# Altium integrated library ST Microcontroller 32-Bit.IntLib: 27 symbols (part 1 of 5)
Pins are listed as number, name and electrical type; pins without a type are passive.

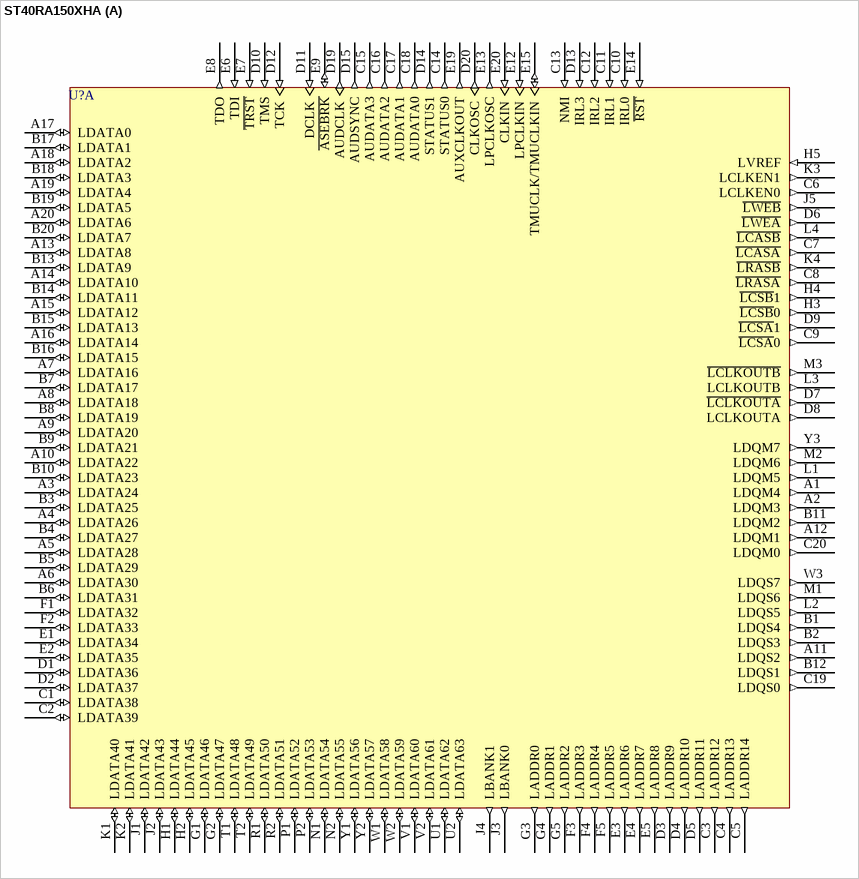
[diagram p0: symbol ST40RA150XHA]

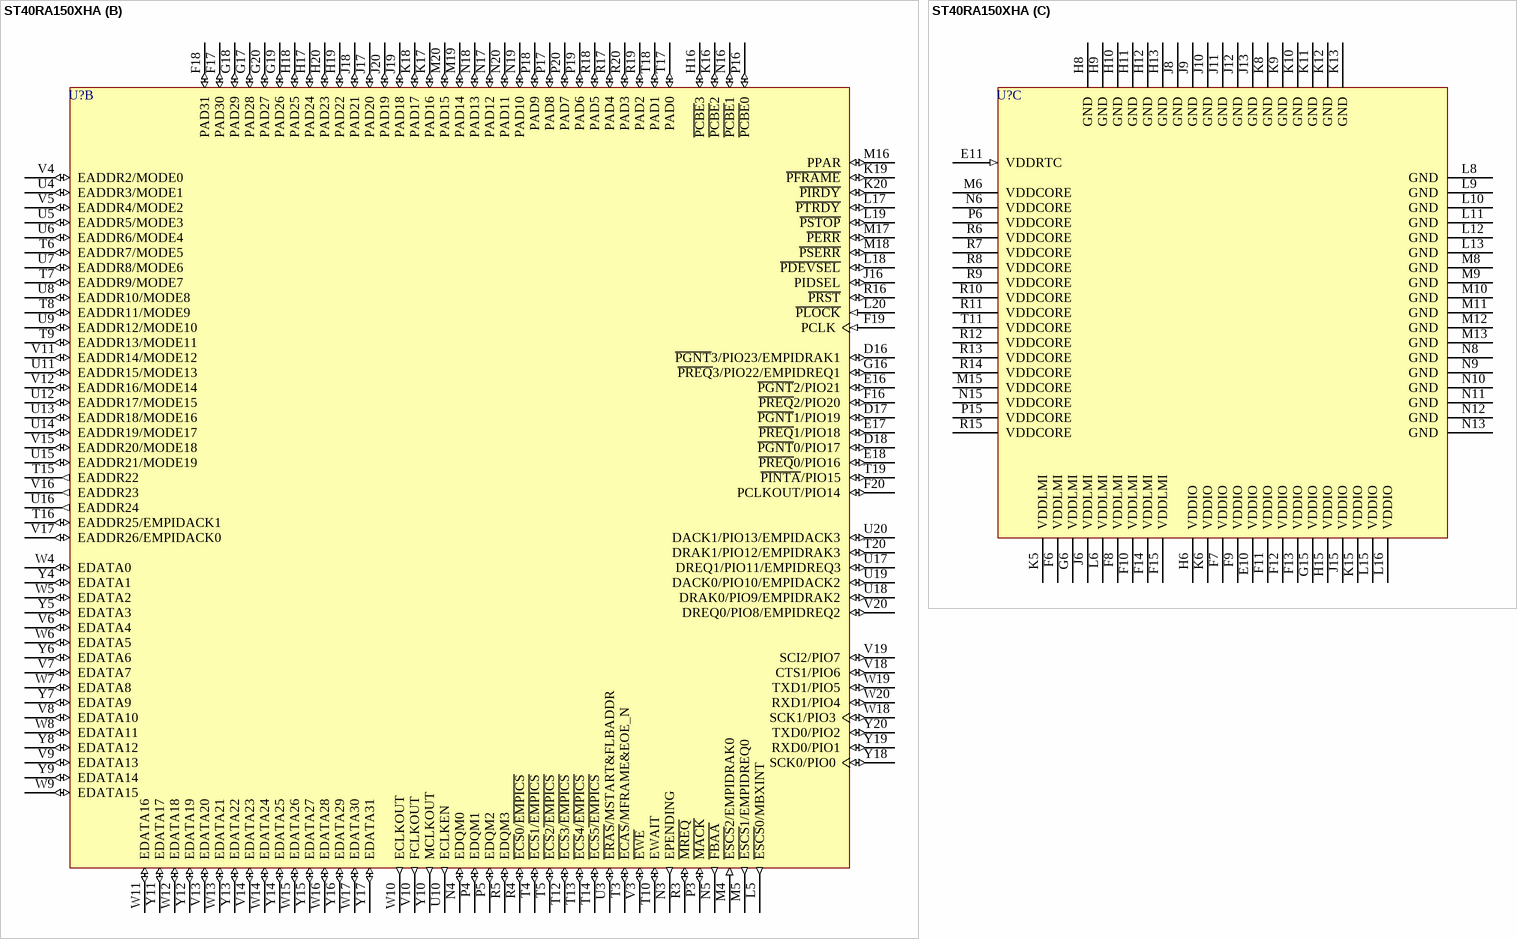
[diagram p1: symbol ST40RA150XHA]

## ST40RA150XHA
designator U?
32-Bit Embedded SuperH Device, 150 MHz CPU Clock, 372-Pin PBGA; Published: 26-May-2004; LatestRevisionDate: 6-Jun-2005; LatestRevisionNote: Stylized 3D Model Added.; DatasheetDocument: Aug-2003; PackageDocument: Aug-2003; PackageReference: PBGA372; Publisher: Altium Limited; ComponentLink1Description: Manufacturer Link; ComponentLink1URL: http://www.st.com/; ComponentLink2Description: Datasheet; ComponentLink2URL: http://www.st.com/stonline/products/literature/ds/8672/st40ra.pdf
footprint PBGA372 (BGA, Plastic; 372 Balls; Body 27 x 27 mm; Pitch 1.27 mm)
3D model ST40RA-PBGA372 (BGA, Plastic; 372 Balls; Body 27 x 27 mm; Pitch 1.27 mm)
part A pins: A1 LDQM4 (out), A2 LDQM3 (out), A3 LDATA24 (io), A4 LDATA26 (io), A5 LDATA28 (io), A6 LDATA30 (io), A7 LDATA16 (io), A8 LDATA18 (io), A9 LDATA20 (io), A10 LDATA22 (io), A11 LDQS2 (out), A12 LDQM1 (out), A13 LDATA8 (io), A14 LDATA10 (io), A15 LDATA12 (io), A16 LDATA14 (io), A17 LDATA0 (io), A18 LDATA2 (io), A19 LDATA4 (io), A20 LDATA6 (io), B1 LDQS4 (out), B2 LDQS3 (out), B3 LDATA25 (io), B4 LDATA27 (io), B5 LDATA29 (io), B6 LDATA31 (io), B7 LDATA17 (io), B8 LDATA19 (io), B9 LDATA21 (io), B10 LDATA23 (io), B11 LDQM2 (out), B12 LDQS1 (out), B13 LDATA9 (io), B14 LDATA11 (io), B15 LDATA13 (io), B16 LDATA15 (io), B17 LDATA1 (io), B18 LDATA3 (io), B19 LDATA5 (io), B20 LDATA7 (io), C1 LDATA38 (io), C2 LDATA39 (io), C3 LADDR12 (out), C4 LADDR13 (out), C5 LADDR14 (out), C6 LCLKEN0 (out), C7 ~{LCASA} (out), C8 ~{LRASA} (out), C9 ~{LCSA}0 (out), C10 IRL0 (in), C11 IRL1 (in), C12 IRL2 (in), C13 NMI (in), C14 STATUS0 (out), C15 AUDATA3 (out), C16 AUDATA2 (out), C17 AUDATA1 (out), C18 AUDATA0 (out), C19 LDQS0 (out), C20 LDQM0 (out), D1 LDATA36 (io), D2 LDATA37 (io), D3 LADDR9 (out), D4 LADDR10 (out), D5 LADDR11 (out), D6 ~{LWEA} (out), D7 ~{LCLKOUTA} (out), D8 LCLKOUTA (out), D9 ~{LCSA}1 (out), D10 TMS (in), D11 DCLK (in), D12 TCK (in), D13 IRL3 (in), D14 STATUS1 (out), D15 AUDSYNC (out), D19 AUDCLK (out), D20 CLKOSC (out), E1 LDATA34 (io), E2 LDATA35 (io), E3 LADDR6 (out), E4 LADDR7 (out), E5 LADDR8 (out), E6 TDI (in), E7 ~{TRST} (in), E8 TDO (out), E9 ~{ASEBRK} (io), E12 LPCLKIN (in), E13 LPCLKOSC (out), E14 ~{RST} (in), E15 TMUCLK/TMUCLKIN (io), E19 AUXCLKOUT (out), E20 CLKIN (in), F1 LDATA32 (io), F2 LDATA33 (io), F3 LADDR3 (out), F4 LADDR4 (out), F5 LADDR5 (out), G1 LDATA46 (io), G2 LDATA47 (io), G3 LADDR0 (out), G4 LADDR1 (out), G5 LADDR2 (out), H1 LDATA44 (io), H2 LDATA45 (io), H3 ~{LCSB}0 (out), H4 ~{LCSB}1 (out), H5 LVREF (in), J1 LDATA42 (io), J2 LDATA43 (io), J3 LBANK0 (out), J4 LBANK1 (out), J5 ~{LWEB} (out), K1 LDATA40 (io), K2 LDATA41 (io), K3 LCLKEN1 (out), K4 ~{LRASB} (out), L1 LDQM5 (out), L2 LDQS5 (out), L3 LCLKOUTB (out), L4 ~{LCASB} (out), M1 LDQS6 (out), M2 LDQM6 (out), M3 ~{LCLKOUTB} (out), N1 LDATA54 (io), N2 LDATA55 (io), P1 LDATA52 (io), P2 LDATA53 (io), R1 LDATA50 (io), R2 LDATA51 (io), T1 LDATA48 (io), T2 LDATA49 (io), U1 LDATA62 (io), U2 LDATA63 (io), V1 LDATA60 (io), V2 LDATA61 (io), W1 LDATA58 (io), W2 LDATA59 (io), W3 LDQS7 (out), Y1 LDATA56 (io), Y2 LDATA57 (io), Y3 LDQM7 (out)
part B pins: D16 ~{PGNT}3/PIO23/EMPIDRAK1 (io), D17 ~{PGNT}1/PIO19 (io), D18 ~{PGNT}0/PIO17 (io), E16 ~{PGNT}2/PIO21 (io), E17 ~{PREQ}1/PIO18 (io), E18 ~{PREQ}0/PIO16 (io), F16 ~{PREQ}2/PIO20 (io), F17 PAD30 (io), F18 PAD31 (io), F19 PCLK (in), F20 PCLKOUT/PIO14 (io), G16 ~{PREQ}3/PIO22/EMPIDREQ1 (io), G17 PAD28 (io), G18 PAD29 (io), G19 PAD26 (io), G20 PAD27 (io), H16 ~{PCBE}3 (io), H17 PAD24 (io), H18 PAD25 (io), H19 PAD22 (io), H20 PAD23 (io), J16 PIDSEL (io), J17 PAD20 (io), J18 PAD21 (io), J19 PAD18 (io), J20 PAD19 (io), K16 ~{PCBE}2 (io), K17 PAD16 (io), K18 PAD17 (io), K19 ~{PFRAME} (io), K20 ~{PIRDY} (io), L5 ~{ESCS}0/MBXINT (out), L17 ~{PTRDY} (io), L18 ~{PDEVSEL} (io), L19 ~{PSTOP} (io), L20 ~{PLOCK} (in), M4 ~{ESCS}2/EMPIDRAK0 (in), M5 ~{ESCS}1/EMPIDREQ0 (out), M16 PPAR (io), M17 ~{PERR} (io), M18 ~{PSERR} (io), M19 PAD14 (io), M20 PAD15 (io), N3 EPENDING (out), N4 EDQM0 (io), N5 ~{FBAA} (out), N16 ~{PCBE}1 (io), N17 PAD12 (io), N18 PAD13 (io), N19 PAD10 (io), N20 PAD11 (io), P3 ~{MACK} (io), P4 EDQM1 (io), P5 EDQM2 (io), P16 ~{PCBE}0 (io), P17 PAD8 (io), P18 PAD9 (io), P19 PAD6 (io), P20 PAD7 (io), R3 ~{MREQ} (io), R4 ~{ECS}0/~{EMPICS} (io), R5 EDQM3 (io), R16 ~{PRST} (io), R17 PAD4 (io), R18 PAD5 (io), R19 PAD2 (io), R20 PAD3 (io), T3 ~{ECAS}/MFRAME&EOE_N (io), T4 ~{ECS}1/~{EMPICS} (io), T5 ~{ECS}2~{/EMPICS} (io), T6 EADDR7/MODE5 (io), T7 EADDR9/MODE7 (io), T8 EADDR11/MODE9 (io), T9 EADDR13/MODE11 (io), T10 EWAIT (io), T12 ~{ECS}3/~{EMPICS} (io), T13 ~{ECS}4/~{EMPICS} (io), T14 ~{ECS}5~{/EMPICS} (io), T15 EADDR22 (out), T16 EADDR25/EMPIDACK1 (io), T17 PAD0 (io), T18 PAD1 (io), T19 ~{PINTA}/PIO15 (io), T20 DRAK1/PIO12/EMPIDRAK3 (io), U3 ~{ERAS}/MSTART&FLBADDR (io), U4 EADDR3/MODE1 (io), U5 EADDR5/MODE3 (io), U6 EADDR6/MODE4 (io), U7 EADDR8/MODE6 (io), U8 EADDR10/MODE8 (io), U9 EADDR12/MODE10 (io), U10 ECLKEN (out), U11 EADDR15/MODE13 (io), U12 EADDR17/MODE15 (io), U13 EADDR18/MODE16 (io), U14 EADDR19/MODE17 (io), U15 EADDR21/MODE19 (io), U16 EADDR24 (out), U17 DREQ1/PIO11/EMPIDREQ3 (io), U18 DRAK0/PIO9/EMPIDRAK2 (io), U19 DACK0/PIO10/EMPIDACK2 (io), U20 DACK1/PIO13/EMPIDACK3 (io), V3 ~{EWE} (io), V4 EADDR2/MODE0 (io), V5 EADDR4/MODE2 (io), V6 EDATA4 (io), V7 EDATA7 (io), V8 EDATA10 (io), V9 EDATA13 (io), V10 FCLKOUT (out), V11 EADDR14/MODE12 (io), V12 EADDR16/MODE14 (io), V13 EDATA20 (io), V14 EDATA23 (io), V15 EADDR20/MODE18 (io), V16 EADDR23 (out), V17 EADDR26/EMPIDACK0 (io), V18 CTS1/PIO6 (io), V19 SCI2/PIO7 (io), V20 DREQ0/PIO8/EMPIDREQ2 (io), W4 EDATA0 (io), W5 EDATA2 (io), W6 EDATA5 (io), W7 EDATA8 (io), W8 EDATA11 (io), W9 EDATA15 (io), W10 ECLKOUT (out), W11 EDATA16 (io), W12 EDATA18 (io), W13 EDATA21 (io), W14 EDATA24 (io), W15 EDATA26 (io), W16 EDATA28 (io), W17 EDATA30 (io), W18 SCK1/PIO3 (io), W19 TXD1/PIO5 (io), W20 RXD1/PIO4 (io), Y4 EDATA1 (io), Y5 EDATA3 (io), Y6 EDATA6 (io), Y7 EDATA9 (io), Y8 EDATA12 (io), Y9 EDATA14 (io), Y10 MCLKOUT (out), Y11 EDATA17 (io), Y12 EDATA19 (io), Y13 EDATA22 (io), Y14 EDATA25 (io), Y15 EDATA27 (io), Y16 EDATA29 (io), Y17 EDATA31 (io), Y18 SCK0/PIO0 (io), Y19 RXD0/PIO1 (io), Y20 TXD0/PIO2 (io)
part C pins: E10 VDDIO (power), E11 VDDRTC (in), F6 VDDLMI (power), F7 VDDIO (power), F8 VDDLMI (power), F9 VDDIO (power), F10 VDDLMI (power), F11 VDDIO (power), F12 VDDIO (power), F13 VDDIO (power), F14 VDDLMI (power), F15 VDDLMI (power), G6 VDDLMI (power), G15 VDDIO (power), H6 VDDIO (power), H8 GND (power), H9 GND (power), H10 GND (power), H11 GND (power), H12 GND (power), H13 GND (power), H15 VDDIO (power), J6 VDDLMI (power), J8 GND (power), J9 GND (power), J10 GND (power), J11 GND (power), J12 GND (power), J13 GND (power), J15 VDDIO (power), K5 VDDLMI (power), K6 VDDIO (power), K8 GND (power), K9 GND (power), K10 GND (power), K11 GND (power), K12 GND (power), K13 GND (power), K15 VDDIO (power), L6 VDDLMI (power), L8 GND (power), L9 GND (power), L10 GND (power), L11 GND (power), L12 GND (power), L13 GND (power), L15 VDDIO (power), L16 VDDIO (power), M6 VDDCORE (power), M8 GND (power), M9 GND (power), M10 GND (power), M11 GND (power), M12 GND (power), M13 GND (power), M15 VDDCORE (power), N6 VDDCORE (power), N8 GND (power), N9 GND (power), N10 GND (power), N11 GND (power), N12 GND (power), N13 GND (power), N15 VDDCORE (power), P6 VDDCORE (power), P15 VDDCORE (power), R6 VDDCORE (power), R7 VDDCORE (power), R8 VDDCORE (power), R9 VDDCORE (power), R10 VDDCORE (power), R11 VDDCORE (power), R12 VDDCORE (power), R13 VDDCORE (power), R14 VDDCORE (power), R15 VDDCORE (power), T11 VDDCORE (power)

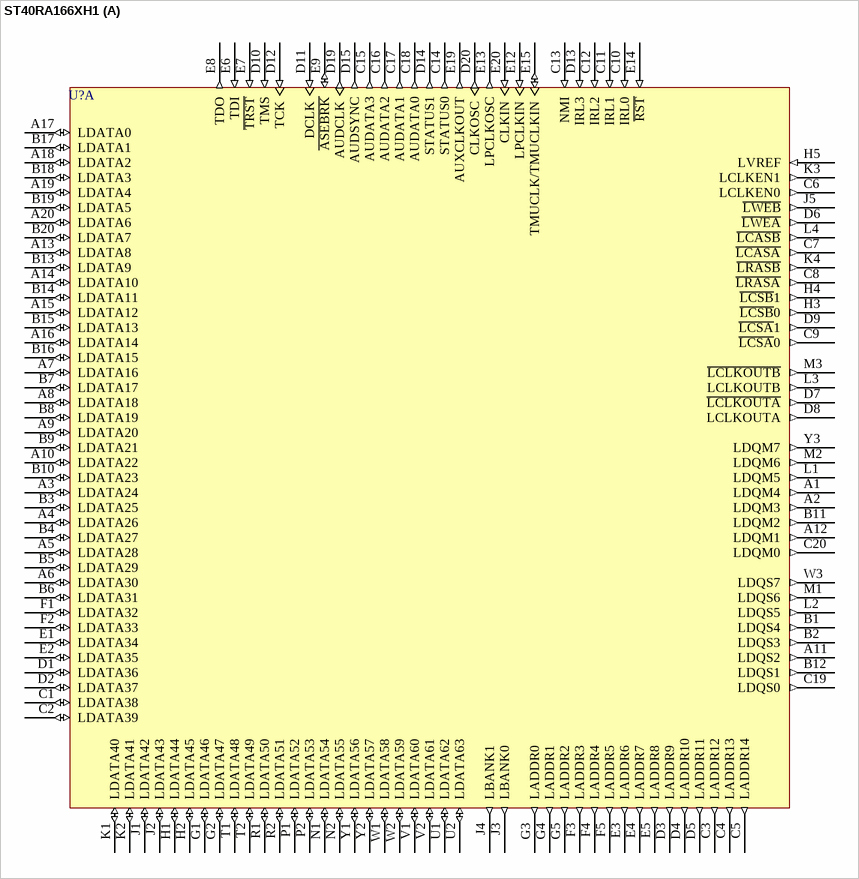
[diagram p2: symbol ST40RA166XH1]

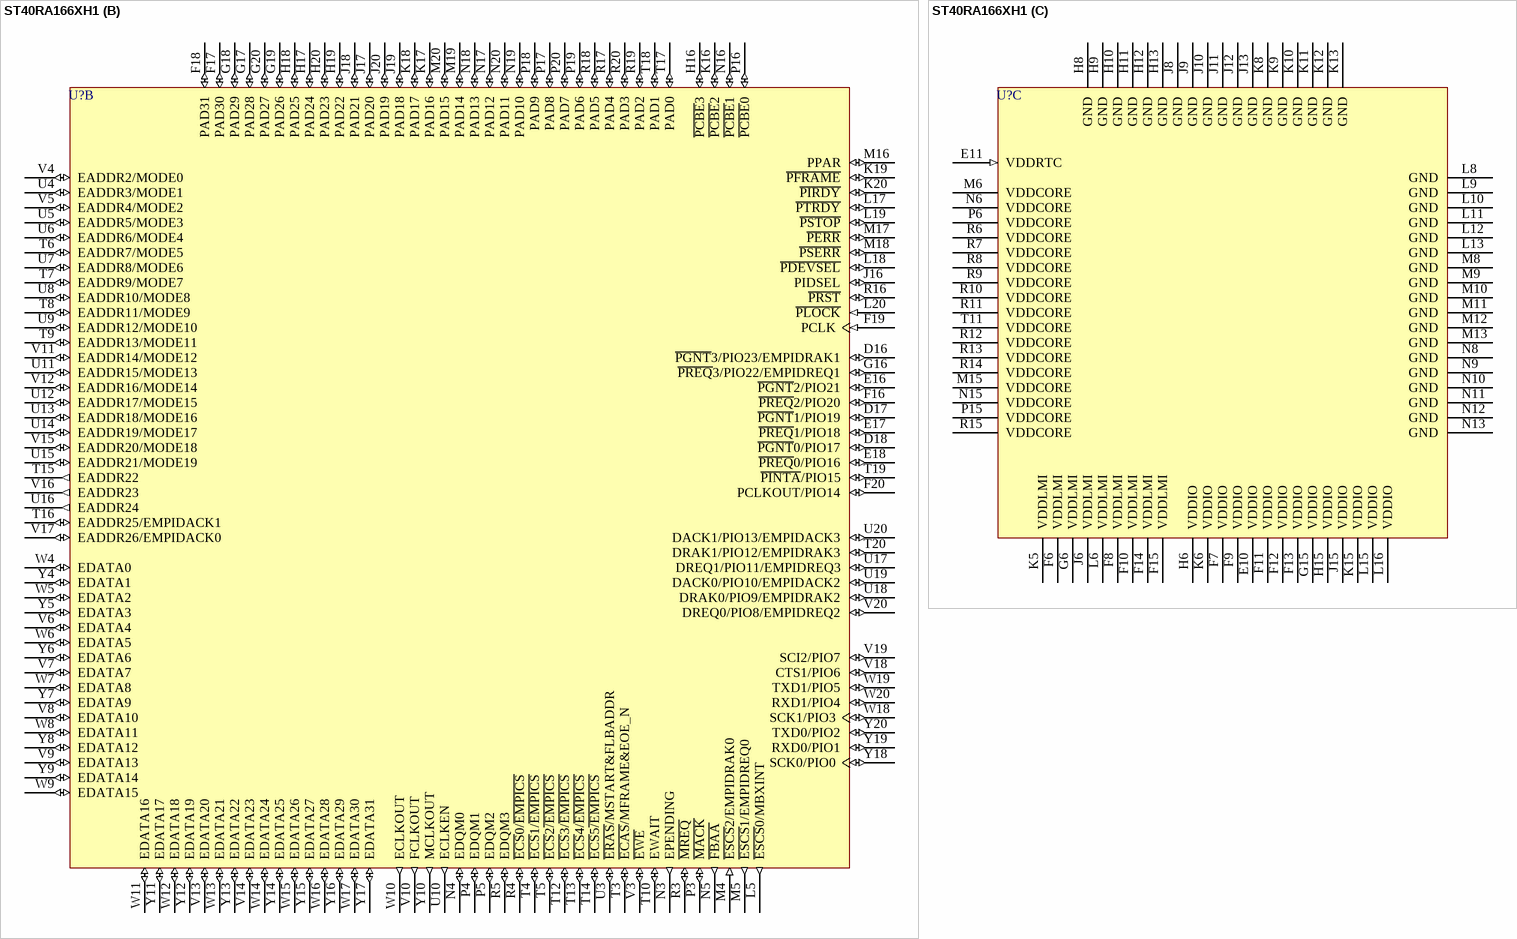
[diagram p3: symbol ST40RA166XH1]

## ST40RA166XH1
designator U?
32-Bit Embedded SuperH Device,  166 MHz CPU Clock, 372-Pin PBGA; Published: 26-May-2004; LatestRevisionDate: 6-Jun-2005; LatestRevisionNote: Stylized 3D Model Added.; DatasheetDocument: Aug-2003; PackageDocument: Aug-2003; PackageReference: PBGA372; Publisher: Altium Limited; ComponentLink1Description: Manufacturer Link; ComponentLink1URL: http://www.st.com/; ComponentLink2Description: Datasheet; ComponentLink2URL: http://www.st.com/stonline/products/literature/ds/8672/st40ra.pdf
footprint PBGA372 (BGA, Plastic; 372 Balls; Body 27 x 27 mm; Pitch 1.27 mm)
3D model ST40RA-PBGA372 (BGA, Plastic; 372 Balls; Body 27 x 27 mm; Pitch 1.27 mm)
part A pins: A1 LDQM4 (out), A2 LDQM3 (out), A3 LDATA24 (io), A4 LDATA26 (io), A5 LDATA28 (io), A6 LDATA30 (io), A7 LDATA16 (io), A8 LDATA18 (io), A9 LDATA20 (io), A10 LDATA22 (io), A11 LDQS2 (out), A12 LDQM1 (out), A13 LDATA8 (io), A14 LDATA10 (io), A15 LDATA12 (io), A16 LDATA14 (io), A17 LDATA0 (io), A18 LDATA2 (io), A19 LDATA4 (io), A20 LDATA6 (io), B1 LDQS4 (out), B2 LDQS3 (out), B3 LDATA25 (io), B4 LDATA27 (io), B5 LDATA29 (io), B6 LDATA31 (io), B7 LDATA17 (io), B8 LDATA19 (io), B9 LDATA21 (io), B10 LDATA23 (io), B11 LDQM2 (out), B12 LDQS1 (out), B13 LDATA9 (io), B14 LDATA11 (io), B15 LDATA13 (io), B16 LDATA15 (io), B17 LDATA1 (io), B18 LDATA3 (io), B19 LDATA5 (io), B20 LDATA7 (io), C1 LDATA38 (io), C2 LDATA39 (io), C3 LADDR12 (out), C4 LADDR13 (out), C5 LADDR14 (out), C6 LCLKEN0 (out), C7 ~{LCASA} (out), C8 ~{LRASA} (out), C9 ~{LCSA}0 (out), C10 IRL0 (in), C11 IRL1 (in), C12 IRL2 (in), C13 NMI (in), C14 STATUS0 (out), C15 AUDATA3 (out), C16 AUDATA2 (out), C17 AUDATA1 (out), C18 AUDATA0 (out), C19 LDQS0 (out), C20 LDQM0 (out), D1 LDATA36 (io), D2 LDATA37 (io), D3 LADDR9 (out), D4 LADDR10 (out), D5 LADDR11 (out), D6 ~{LWEA} (out), D7 ~{LCLKOUTA} (out), D8 LCLKOUTA (out), D9 ~{LCSA}1 (out), D10 TMS (in), D11 DCLK (in), D12 TCK (in), D13 IRL3 (in), D14 STATUS1 (out), D15 AUDSYNC (out), D19 AUDCLK (out), D20 CLKOSC (out), E1 LDATA34 (io), E2 LDATA35 (io), E3 LADDR6 (out), E4 LADDR7 (out), E5 LADDR8 (out), E6 TDI (in), E7 ~{TRST} (in), E8 TDO (out), E9 ~{ASEBRK} (io), E12 LPCLKIN (in), E13 LPCLKOSC (out), E14 ~{RST} (in), E15 TMUCLK/TMUCLKIN (io), E19 AUXCLKOUT (out), E20 CLKIN (in), F1 LDATA32 (io), F2 LDATA33 (io), F3 LADDR3 (out), F4 LADDR4 (out), F5 LADDR5 (out), G1 LDATA46 (io), G2 LDATA47 (io), G3 LADDR0 (out), G4 LADDR1 (out), G5 LADDR2 (out), H1 LDATA44 (io), H2 LDATA45 (io), H3 ~{LCSB}0 (out), H4 ~{LCSB}1 (out), H5 LVREF (in), J1 LDATA42 (io), J2 LDATA43 (io), J3 LBANK0 (out), J4 LBANK1 (out), J5 ~{LWEB} (out), K1 LDATA40 (io), K2 LDATA41 (io), K3 LCLKEN1 (out), K4 ~{LRASB} (out), L1 LDQM5 (out), L2 LDQS5 (out), L3 LCLKOUTB (out), L4 ~{LCASB} (out), M1 LDQS6 (out), M2 LDQM6 (out), M3 ~{LCLKOUTB} (out), N1 LDATA54 (io), N2 LDATA55 (io), P1 LDATA52 (io), P2 LDATA53 (io), R1 LDATA50 (io), R2 LDATA51 (io), T1 LDATA48 (io), T2 LDATA49 (io), U1 LDATA62 (io), U2 LDATA63 (io), V1 LDATA60 (io), V2 LDATA61 (io), W1 LDATA58 (io), W2 LDATA59 (io), W3 LDQS7 (out), Y1 LDATA56 (io), Y2 LDATA57 (io), Y3 LDQM7 (out)
part B pins: D16 ~{PGNT}3/PIO23/EMPIDRAK1 (io), D17 ~{PGNT}1/PIO19 (io), D18 ~{PGNT}0/PIO17 (io), E16 ~{PGNT}2/PIO21 (io), E17 ~{PREQ}1/PIO18 (io), E18 ~{PREQ}0/PIO16 (io), F16 ~{PREQ}2/PIO20 (io), F17 PAD30 (io), F18 PAD31 (io), F19 PCLK (in), F20 PCLKOUT/PIO14 (io), G16 ~{PREQ}3/PIO22/EMPIDREQ1 (io), G17 PAD28 (io), G18 PAD29 (io), G19 PAD26 (io), G20 PAD27 (io), H16 ~{PCBE}3 (io), H17 PAD24 (io), H18 PAD25 (io), H19 PAD22 (io), H20 PAD23 (io), J16 PIDSEL (io), J17 PAD20 (io), J18 PAD21 (io), J19 PAD18 (io), J20 PAD19 (io), K16 ~{PCBE}2 (io), K17 PAD16 (io), K18 PAD17 (io), K19 ~{PFRAME} (io), K20 ~{PIRDY} (io), L5 ~{ESCS}0/MBXINT (out), L17 ~{PTRDY} (io), L18 ~{PDEVSEL} (io), L19 ~{PSTOP} (io), L20 ~{PLOCK} (in), M4 ~{ESCS}2/EMPIDRAK0 (in), M5 ~{ESCS}1/EMPIDREQ0 (out), M16 PPAR (io), M17 ~{PERR} (io), M18 ~{PSERR} (io), M19 PAD14 (io), M20 PAD15 (io), N3 EPENDING (out), N4 EDQM0 (io), N5 ~{FBAA} (out), N16 ~{PCBE}1 (io), N17 PAD12 (io), N18 PAD13 (io), N19 PAD10 (io), N20 PAD11 (io), P3 ~{MACK} (io), P4 EDQM1 (io), P5 EDQM2 (io), P16 ~{PCBE}0 (io), P17 PAD8 (io), P18 PAD9 (io), P19 PAD6 (io), P20 PAD7 (io), R3 ~{MREQ} (io), R4 ~{ECS}0/~{EMPICS} (io), R5 EDQM3 (io), R16 ~{PRST} (io), R17 PAD4 (io), R18 PAD5 (io), R19 PAD2 (io), R20 PAD3 (io), T3 ~{ECAS}/MFRAME&EOE_N (io), T4 ~{ECS}1/~{EMPICS} (io), T5 ~{ECS}2~{/EMPICS} (io), T6 EADDR7/MODE5 (io), T7 EADDR9/MODE7 (io), T8 EADDR11/MODE9 (io), T9 EADDR13/MODE11 (io), T10 EWAIT (io), T12 ~{ECS}3/~{EMPICS} (io), T13 ~{ECS}4/~{EMPICS} (io), T14 ~{ECS}5~{/EMPICS} (io), T15 EADDR22 (out), T16 EADDR25/EMPIDACK1 (io), T17 PAD0 (io), T18 PAD1 (io), T19 ~{PINTA}/PIO15 (io), T20 DRAK1/PIO12/EMPIDRAK3 (io), U3 ~{ERAS}/MSTART&FLBADDR (io), U4 EADDR3/MODE1 (io), U5 EADDR5/MODE3 (io), U6 EADDR6/MODE4 (io), U7 EADDR8/MODE6 (io), U8 EADDR10/MODE8 (io), U9 EADDR12/MODE10 (io), U10 ECLKEN (out), U11 EADDR15/MODE13 (io), U12 EADDR17/MODE15 (io), U13 EADDR18/MODE16 (io), U14 EADDR19/MODE17 (io), U15 EADDR21/MODE19 (io), U16 EADDR24 (out), U17 DREQ1/PIO11/EMPIDREQ3 (io), U18 DRAK0/PIO9/EMPIDRAK2 (io), U19 DACK0/PIO10/EMPIDACK2 (io), U20 DACK1/PIO13/EMPIDACK3 (io), V3 ~{EWE} (io), V4 EADDR2/MODE0 (io), V5 EADDR4/MODE2 (io), V6 EDATA4 (io), V7 EDATA7 (io), V8 EDATA10 (io), V9 EDATA13 (io), V10 FCLKOUT (out), V11 EADDR14/MODE12 (io), V12 EADDR16/MODE14 (io), V13 EDATA20 (io), V14 EDATA23 (io), V15 EADDR20/MODE18 (io), V16 EADDR23 (out), V17 EADDR26/EMPIDACK0 (io), V18 CTS1/PIO6 (io), V19 SCI2/PIO7 (io), V20 DREQ0/PIO8/EMPIDREQ2 (io), W4 EDATA0 (io), W5 EDATA2 (io), W6 EDATA5 (io), W7 EDATA8 (io), W8 EDATA11 (io), W9 EDATA15 (io), W10 ECLKOUT (out), W11 EDATA16 (io), W12 EDATA18 (io), W13 EDATA21 (io), W14 EDATA24 (io), W15 EDATA26 (io), W16 EDATA28 (io), W17 EDATA30 (io), W18 SCK1/PIO3 (io), W19 TXD1/PIO5 (io), W20 RXD1/PIO4 (io), Y4 EDATA1 (io), Y5 EDATA3 (io), Y6 EDATA6 (io), Y7 EDATA9 (io), Y8 EDATA12 (io), Y9 EDATA14 (io), Y10 MCLKOUT (out), Y11 EDATA17 (io), Y12 EDATA19 (io), Y13 EDATA22 (io), Y14 EDATA25 (io), Y15 EDATA27 (io), Y16 EDATA29 (io), Y17 EDATA31 (io), Y18 SCK0/PIO0 (io), Y19 RXD0/PIO1 (io), Y20 TXD0/PIO2 (io)
part C pins: E10 VDDIO (power), E11 VDDRTC (in), F6 VDDLMI (power), F7 VDDIO (power), F8 VDDLMI (power), F9 VDDIO (power), F10 VDDLMI (power), F11 VDDIO (power), F12 VDDIO (power), F13 VDDIO (power), F14 VDDLMI (power), F15 VDDLMI (power), G6 VDDLMI (power), G15 VDDIO (power), H6 VDDIO (power), H8 GND (power), H9 GND (power), H10 GND (power), H11 GND (power), H12 GND (power), H13 GND (power), H15 VDDIO (power), J6 VDDLMI (power), J8 GND (power), J9 GND (power), J10 GND (power), J11 GND (power), J12 GND (power), J13 GND (power), J15 VDDIO (power), K5 VDDLMI (power), K6 VDDIO (power), K8 GND (power), K9 GND (power), K10 GND (power), K11 GND (power), K12 GND (power), K13 GND (power), K15 VDDIO (power), L6 VDDLMI (power), L8 GND (power), L9 GND (power), L10 GND (power), L11 GND (power), L12 GND (power), L13 GND (power), L15 VDDIO (power), L16 VDDIO (power), M6 VDDCORE (power), M8 GND (power), M9 GND (power), M10 GND (power), M11 GND (power), M12 GND (power), M13 GND (power), M15 VDDCORE (power), N6 VDDCORE (power), N8 GND (power), N9 GND (power), N10 GND (power), N11 GND (power), N12 GND (power), N13 GND (power), N15 VDDCORE (power), P6 VDDCORE (power), P15 VDDCORE (power), R6 VDDCORE (power), R7 VDDCORE (power), R8 VDDCORE (power), R9 VDDCORE (power), R10 VDDCORE (power), R11 VDDCORE (power), R12 VDDCORE (power), R13 VDDCORE (power), R14 VDDCORE (power), R15 VDDCORE (power), T11 VDDCORE (power)

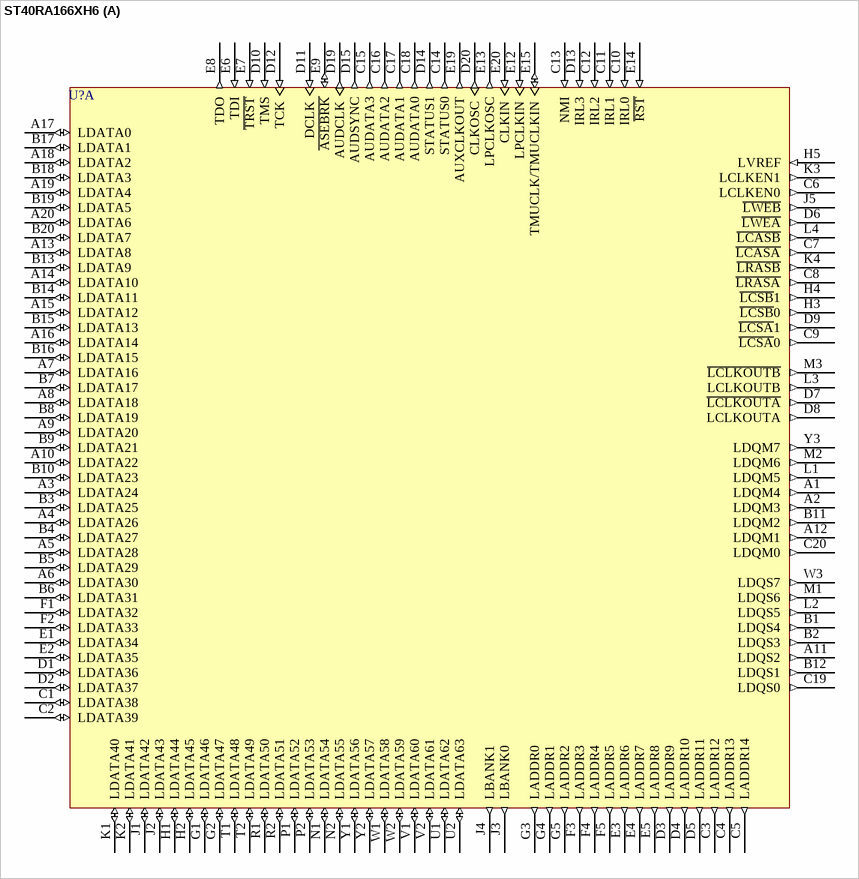
[diagram p4: symbol ST40RA166XH6]

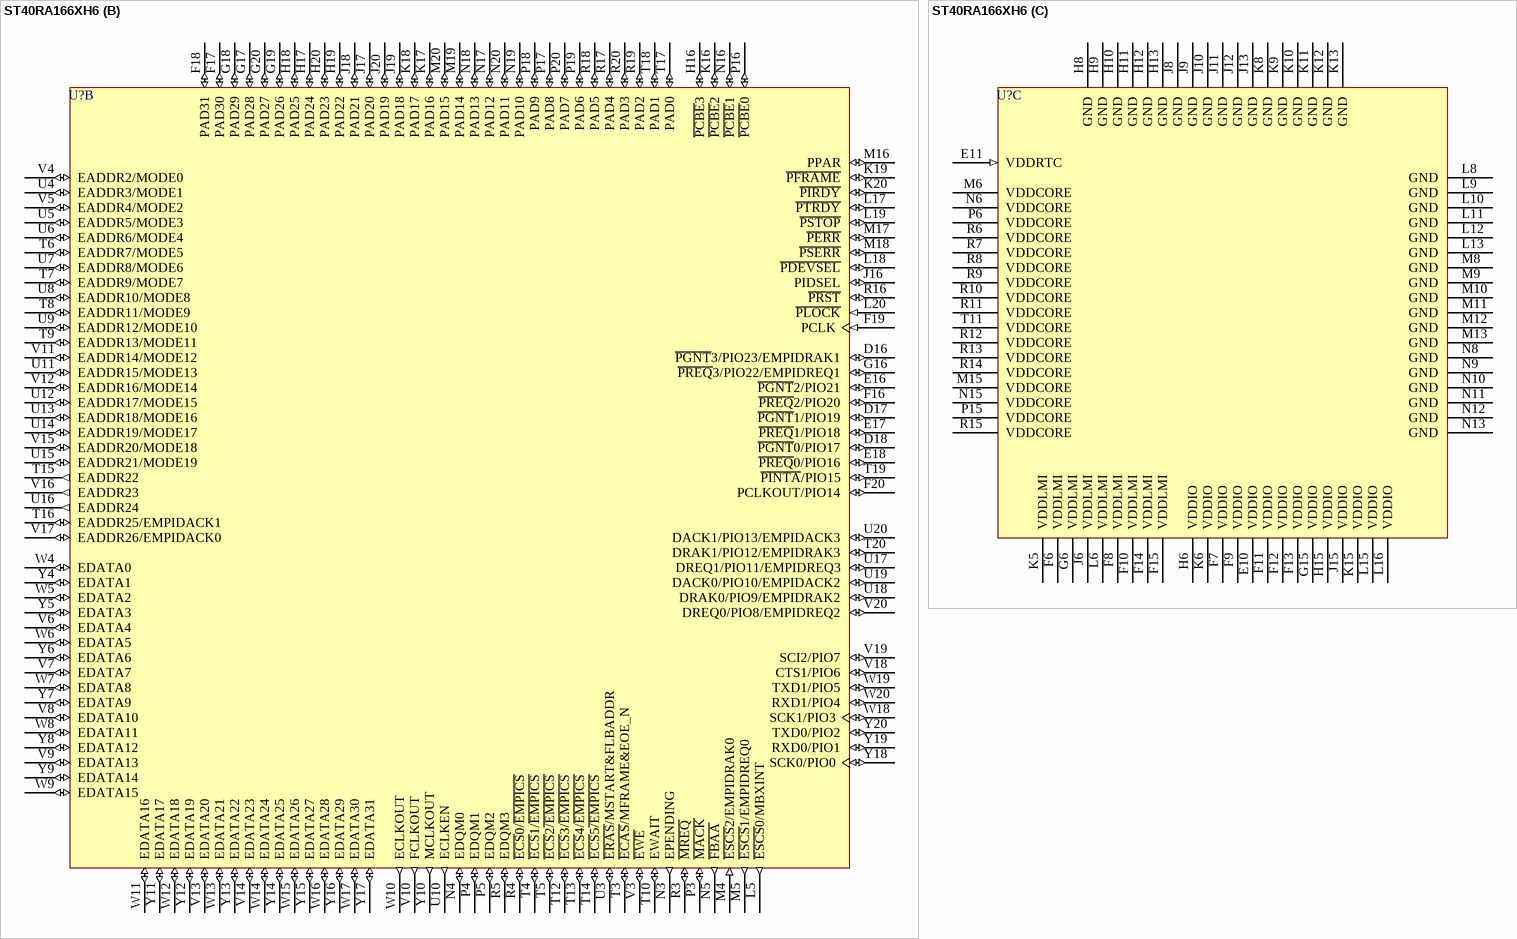
[diagram p5: symbol ST40RA166XH6]

## ST40RA166XH6
designator U?
32-Bit Embedded SuperH Device,  166 MHz CPU Clock, 372-Pin PBGA; Published: 26-May-2004; LatestRevisionDate: 6-Jun-2005; LatestRevisionNote: Stylized 3D Model Added.; DatasheetDocument: Aug-2003; PackageDocument: Aug-2003; PackageReference: PBGA372; Publisher: Altium Limited; ComponentLink1Description: Manufacturer Link; ComponentLink1URL: http://www.st.com/; ComponentLink2Description: Datasheet; ComponentLink2URL: http://www.st.com/stonline/products/literature/ds/8672/st40ra.pdf
footprint PBGA372 (BGA, Plastic; 372 Balls; Body 27 x 27 mm; Pitch 1.27 mm)
3D model ST40RA-PBGA372 (BGA, Plastic; 372 Balls; Body 27 x 27 mm; Pitch 1.27 mm)
part A pins: A1 LDQM4 (out), A2 LDQM3 (out), A3 LDATA24 (io), A4 LDATA26 (io), A5 LDATA28 (io), A6 LDATA30 (io), A7 LDATA16 (io), A8 LDATA18 (io), A9 LDATA20 (io), A10 LDATA22 (io), A11 LDQS2 (out), A12 LDQM1 (out), A13 LDATA8 (io), A14 LDATA10 (io), A15 LDATA12 (io), A16 LDATA14 (io), A17 LDATA0 (io), A18 LDATA2 (io), A19 LDATA4 (io), A20 LDATA6 (io), B1 LDQS4 (out), B2 LDQS3 (out), B3 LDATA25 (io), B4 LDATA27 (io), B5 LDATA29 (io), B6 LDATA31 (io), B7 LDATA17 (io), B8 LDATA19 (io), B9 LDATA21 (io), B10 LDATA23 (io), B11 LDQM2 (out), B12 LDQS1 (out), B13 LDATA9 (io), B14 LDATA11 (io), B15 LDATA13 (io), B16 LDATA15 (io), B17 LDATA1 (io), B18 LDATA3 (io), B19 LDATA5 (io), B20 LDATA7 (io), C1 LDATA38 (io), C2 LDATA39 (io), C3 LADDR12 (out), C4 LADDR13 (out), C5 LADDR14 (out), C6 LCLKEN0 (out), C7 ~{LCASA} (out), C8 ~{LRASA} (out), C9 ~{LCSA}0 (out), C10 IRL0 (in), C11 IRL1 (in), C12 IRL2 (in), C13 NMI (in), C14 STATUS0 (out), C15 AUDATA3 (out), C16 AUDATA2 (out), C17 AUDATA1 (out), C18 AUDATA0 (out), C19 LDQS0 (out), C20 LDQM0 (out), D1 LDATA36 (io), D2 LDATA37 (io), D3 LADDR9 (out), D4 LADDR10 (out), D5 LADDR11 (out), D6 ~{LWEA} (out), D7 ~{LCLKOUTA} (out), D8 LCLKOUTA (out), D9 ~{LCSA}1 (out), D10 TMS (in), D11 DCLK (in), D12 TCK (in), D13 IRL3 (in), D14 STATUS1 (out), D15 AUDSYNC (out), D19 AUDCLK (out), D20 CLKOSC (out), E1 LDATA34 (io), E2 LDATA35 (io), E3 LADDR6 (out), E4 LADDR7 (out), E5 LADDR8 (out), E6 TDI (in), E7 ~{TRST} (in), E8 TDO (out), E9 ~{ASEBRK} (io), E12 LPCLKIN (in), E13 LPCLKOSC (out), E14 ~{RST} (in), E15 TMUCLK/TMUCLKIN (io), E19 AUXCLKOUT (out), E20 CLKIN (in), F1 LDATA32 (io), F2 LDATA33 (io), F3 LADDR3 (out), F4 LADDR4 (out), F5 LADDR5 (out), G1 LDATA46 (io), G2 LDATA47 (io), G3 LADDR0 (out), G4 LADDR1 (out), G5 LADDR2 (out), H1 LDATA44 (io), H2 LDATA45 (io), H3 ~{LCSB}0 (out), H4 ~{LCSB}1 (out), H5 LVREF (in), J1 LDATA42 (io), J2 LDATA43 (io), J3 LBANK0 (out), J4 LBANK1 (out), J5 ~{LWEB} (out), K1 LDATA40 (io), K2 LDATA41 (io), K3 LCLKEN1 (out), K4 ~{LRASB} (out), L1 LDQM5 (out), L2 LDQS5 (out), L3 LCLKOUTB (out), L4 ~{LCASB} (out), M1 LDQS6 (out), M2 LDQM6 (out), M3 ~{LCLKOUTB} (out), N1 LDATA54 (io), N2 LDATA55 (io), P1 LDATA52 (io), P2 LDATA53 (io), R1 LDATA50 (io), R2 LDATA51 (io), T1 LDATA48 (io), T2 LDATA49 (io), U1 LDATA62 (io), U2 LDATA63 (io), V1 LDATA60 (io), V2 LDATA61 (io), W1 LDATA58 (io), W2 LDATA59 (io), W3 LDQS7 (out), Y1 LDATA56 (io), Y2 LDATA57 (io), Y3 LDQM7 (out)
part B pins: D16 ~{PGNT}3/PIO23/EMPIDRAK1 (io), D17 ~{PGNT}1/PIO19 (io), D18 ~{PGNT}0/PIO17 (io), E16 ~{PGNT}2/PIO21 (io), E17 ~{PREQ}1/PIO18 (io), E18 ~{PREQ}0/PIO16 (io), F16 ~{PREQ}2/PIO20 (io), F17 PAD30 (io), F18 PAD31 (io), F19 PCLK (in), F20 PCLKOUT/PIO14 (io), G16 ~{PREQ}3/PIO22/EMPIDREQ1 (io), G17 PAD28 (io), G18 PAD29 (io), G19 PAD26 (io), G20 PAD27 (io), H16 ~{PCBE}3 (io), H17 PAD24 (io), H18 PAD25 (io), H19 PAD22 (io), H20 PAD23 (io), J16 PIDSEL (io), J17 PAD20 (io), J18 PAD21 (io), J19 PAD18 (io), J20 PAD19 (io), K16 ~{PCBE}2 (io), K17 PAD16 (io), K18 PAD17 (io), K19 ~{PFRAME} (io), K20 ~{PIRDY} (io), L5 ~{ESCS}0/MBXINT (out), L17 ~{PTRDY} (io), L18 ~{PDEVSEL} (io), L19 ~{PSTOP} (io), L20 ~{PLOCK} (in), M4 ~{ESCS}2/EMPIDRAK0 (in), M5 ~{ESCS}1/EMPIDREQ0 (out), M16 PPAR (io), M17 ~{PERR} (io), M18 ~{PSERR} (io), M19 PAD14 (io), M20 PAD15 (io), N3 EPENDING (out), N4 EDQM0 (io), N5 ~{FBAA} (out), N16 ~{PCBE}1 (io), N17 PAD12 (io), N18 PAD13 (io), N19 PAD10 (io), N20 PAD11 (io), P3 ~{MACK} (io), P4 EDQM1 (io), P5 EDQM2 (io), P16 ~{PCBE}0 (io), P17 PAD8 (io), P18 PAD9 (io), P19 PAD6 (io), P20 PAD7 (io), R3 ~{MREQ} (io), R4 ~{ECS}0/~{EMPICS} (io), R5 EDQM3 (io), R16 ~{PRST} (io), R17 PAD4 (io), R18 PAD5 (io), R19 PAD2 (io), R20 PAD3 (io), T3 ~{ECAS}/MFRAME&EOE_N (io), T4 ~{ECS}1/~{EMPICS} (io), T5 ~{ECS}2~{/EMPICS} (io), T6 EADDR7/MODE5 (io), T7 EADDR9/MODE7 (io), T8 EADDR11/MODE9 (io), T9 EADDR13/MODE11 (io), T10 EWAIT (io), T12 ~{ECS}3/~{EMPICS} (io), T13 ~{ECS}4/~{EMPICS} (io), T14 ~{ECS}5~{/EMPICS} (io), T15 EADDR22 (out), T16 EADDR25/EMPIDACK1 (io), T17 PAD0 (io), T18 PAD1 (io), T19 ~{PINTA}/PIO15 (io), T20 DRAK1/PIO12/EMPIDRAK3 (io), U3 ~{ERAS}/MSTART&FLBADDR (io), U4 EADDR3/MODE1 (io), U5 EADDR5/MODE3 (io), U6 EADDR6/MODE4 (io), U7 EADDR8/MODE6 (io), U8 EADDR10/MODE8 (io), U9 EADDR12/MODE10 (io), U10 ECLKEN (out), U11 EADDR15/MODE13 (io), U12 EADDR17/MODE15 (io), U13 EADDR18/MODE16 (io), U14 EADDR19/MODE17 (io), U15 EADDR21/MODE19 (io), U16 EADDR24 (out), U17 DREQ1/PIO11/EMPIDREQ3 (io), U18 DRAK0/PIO9/EMPIDRAK2 (io), U19 DACK0/PIO10/EMPIDACK2 (io), U20 DACK1/PIO13/EMPIDACK3 (io), V3 ~{EWE} (io), V4 EADDR2/MODE0 (io), V5 EADDR4/MODE2 (io), V6 EDATA4 (io), V7 EDATA7 (io), V8 EDATA10 (io), V9 EDATA13 (io), V10 FCLKOUT (out), V11 EADDR14/MODE12 (io), V12 EADDR16/MODE14 (io), V13 EDATA20 (io), V14 EDATA23 (io), V15 EADDR20/MODE18 (io), V16 EADDR23 (out), V17 EADDR26/EMPIDACK0 (io), V18 CTS1/PIO6 (io), V19 SCI2/PIO7 (io), V20 DREQ0/PIO8/EMPIDREQ2 (io), W4 EDATA0 (io), W5 EDATA2 (io), W6 EDATA5 (io), W7 EDATA8 (io), W8 EDATA11 (io), W9 EDATA15 (io), W10 ECLKOUT (out), W11 EDATA16 (io), W12 EDATA18 (io), W13 EDATA21 (io), W14 EDATA24 (io), W15 EDATA26 (io), W16 EDATA28 (io), W17 EDATA30 (io), W18 SCK1/PIO3 (io), W19 TXD1/PIO5 (io), W20 RXD1/PIO4 (io), Y4 EDATA1 (io), Y5 EDATA3 (io), Y6 EDATA6 (io), Y7 EDATA9 (io), Y8 EDATA12 (io), Y9 EDATA14 (io), Y10 MCLKOUT (out), Y11 EDATA17 (io), Y12 EDATA19 (io), Y13 EDATA22 (io), Y14 EDATA25 (io), Y15 EDATA27 (io), Y16 EDATA29 (io), Y17 EDATA31 (io), Y18 SCK0/PIO0 (io), Y19 RXD0/PIO1 (io), Y20 TXD0/PIO2 (io)
part C pins: E10 VDDIO (power), E11 VDDRTC (in), F6 VDDLMI (power), F7 VDDIO (power), F8 VDDLMI (power), F9 VDDIO (power), F10 VDDLMI (power), F11 VDDIO (power), F12 VDDIO (power), F13 VDDIO (power), F14 VDDLMI (power), F15 VDDLMI (power), G6 VDDLMI (power), G15 VDDIO (power), H6 VDDIO (power), H8 GND (power), H9 GND (power), H10 GND (power), H11 GND (power), H12 GND (power), H13 GND (power), H15 VDDIO (power), J6 VDDLMI (power), J8 GND (power), J9 GND (power), J10 GND (power), J11 GND (power), J12 GND (power), J13 GND (power), J15 VDDIO (power), K5 VDDLMI (power), K6 VDDIO (power), K8 GND (power), K9 GND (power), K10 GND (power), K11 GND (power), K12 GND (power), K13 GND (power), K15 VDDIO (power), L6 VDDLMI (power), L8 GND (power), L9 GND (power), L10 GND (power), L11 GND (power), L12 GND (power), L13 GND (power), L15 VDDIO (power), L16 VDDIO (power), M6 VDDCORE (power), M8 GND (power), M9 GND (power), M10 GND (power), M11 GND (power), M12 GND (power), M13 GND (power), M15 VDDCORE (power), N6 VDDCORE (power), N8 GND (power), N9 GND (power), N10 GND (power), N11 GND (power), N12 GND (power), N13 GND (power), N15 VDDCORE (power), P6 VDDCORE (power), P15 VDDCORE (power), R6 VDDCORE (power), R7 VDDCORE (power), R8 VDDCORE (power), R9 VDDCORE (power), R10 VDDCORE (power), R11 VDDCORE (power), R12 VDDCORE (power), R13 VDDCORE (power), R14 VDDCORE (power), R15 VDDCORE (power), T11 VDDCORE (power)

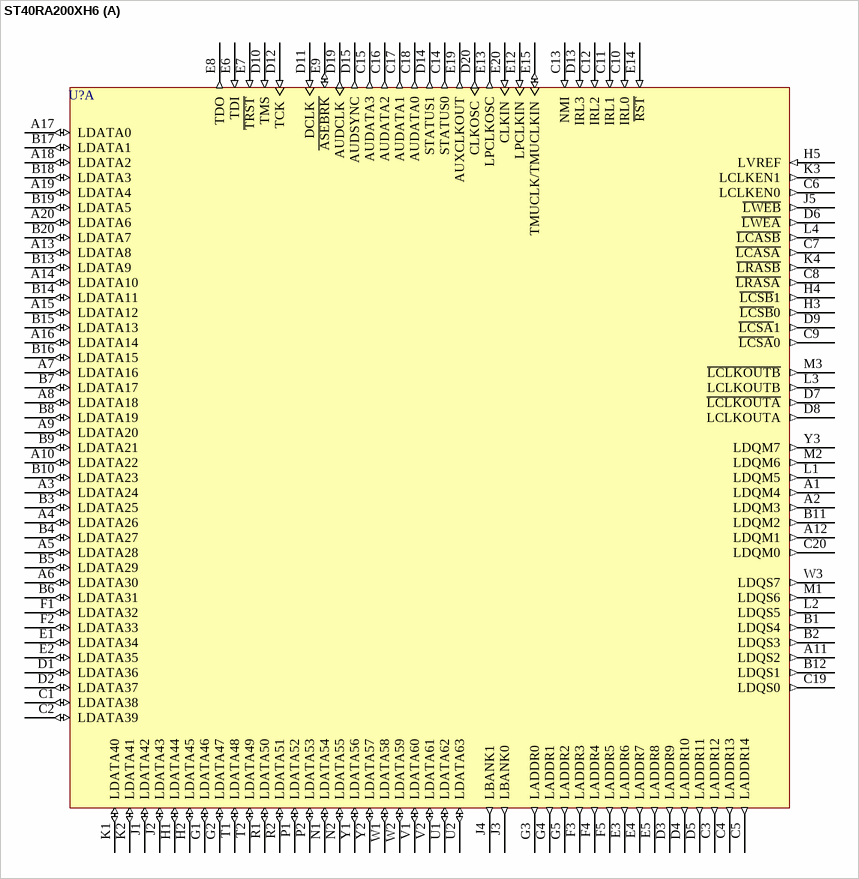
[diagram p6: symbol ST40RA200XH6]

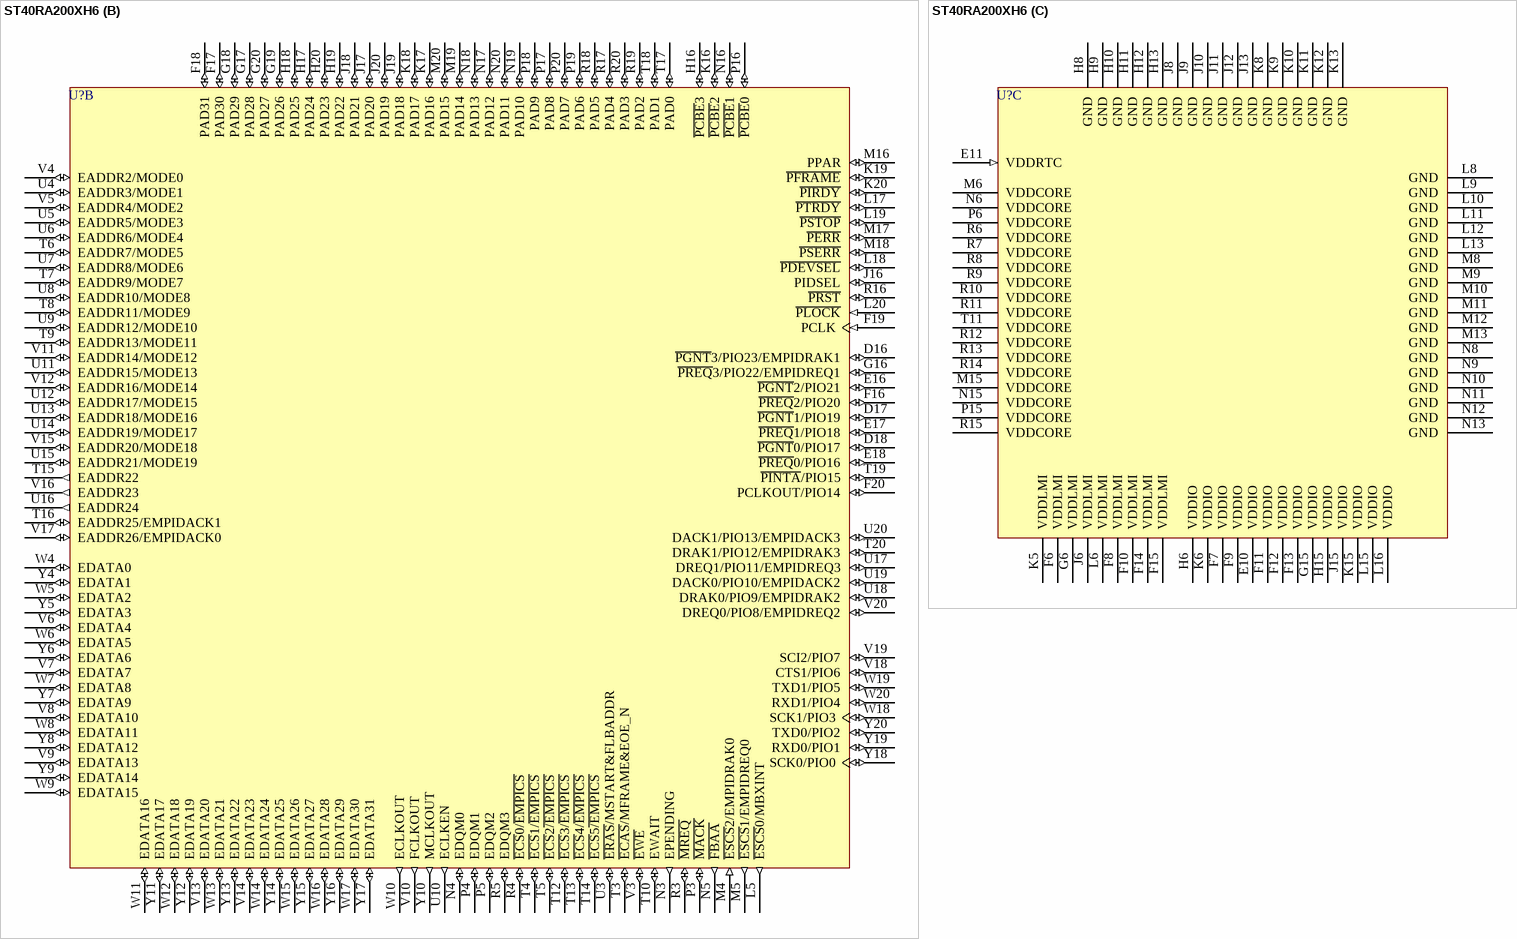
[diagram p7: symbol ST40RA200XH6]

## ST40RA200XH6
designator U?
32-Bit Embedded SuperH Device,  200 MHz CPU Clock, 372-Pin PBGA; Published: 26-May-2004; LatestRevisionDate: 6-Jun-2005; LatestRevisionNote: Stylized 3D Model Added.; DatasheetDocument: Aug-2003; PackageDocument: Aug-2003; PackageReference: PBGA372; Publisher: Altium Limited; ComponentLink1Description: Manufacturer Link; ComponentLink1URL: http://www.st.com/; ComponentLink2Description: Datasheet; ComponentLink2URL: http://www.st.com/stonline/products/literature/ds/8672/st40ra.pdf
footprint PBGA372 (BGA, Plastic; 372 Balls; Body 27 x 27 mm; Pitch 1.27 mm)
3D model ST40RA-PBGA372 (BGA, Plastic; 372 Balls; Body 27 x 27 mm; Pitch 1.27 mm)
part A pins: A1 LDQM4 (out), A2 LDQM3 (out), A3 LDATA24 (io), A4 LDATA26 (io), A5 LDATA28 (io), A6 LDATA30 (io), A7 LDATA16 (io), A8 LDATA18 (io), A9 LDATA20 (io), A10 LDATA22 (io), A11 LDQS2 (out), A12 LDQM1 (out), A13 LDATA8 (io), A14 LDATA10 (io), A15 LDATA12 (io), A16 LDATA14 (io), A17 LDATA0 (io), A18 LDATA2 (io), A19 LDATA4 (io), A20 LDATA6 (io), B1 LDQS4 (out), B2 LDQS3 (out), B3 LDATA25 (io), B4 LDATA27 (io), B5 LDATA29 (io), B6 LDATA31 (io), B7 LDATA17 (io), B8 LDATA19 (io), B9 LDATA21 (io), B10 LDATA23 (io), B11 LDQM2 (out), B12 LDQS1 (out), B13 LDATA9 (io), B14 LDATA11 (io), B15 LDATA13 (io), B16 LDATA15 (io), B17 LDATA1 (io), B18 LDATA3 (io), B19 LDATA5 (io), B20 LDATA7 (io), C1 LDATA38 (io), C2 LDATA39 (io), C3 LADDR12 (out), C4 LADDR13 (out), C5 LADDR14 (out), C6 LCLKEN0 (out), C7 ~{LCASA} (out), C8 ~{LRASA} (out), C9 ~{LCSA}0 (out), C10 IRL0 (in), C11 IRL1 (in), C12 IRL2 (in), C13 NMI (in), C14 STATUS0 (out), C15 AUDATA3 (out), C16 AUDATA2 (out), C17 AUDATA1 (out), C18 AUDATA0 (out), C19 LDQS0 (out), C20 LDQM0 (out), D1 LDATA36 (io), D2 LDATA37 (io), D3 LADDR9 (out), D4 LADDR10 (out), D5 LADDR11 (out), D6 ~{LWEA} (out), D7 ~{LCLKOUTA} (out), D8 LCLKOUTA (out), D9 ~{LCSA}1 (out), D10 TMS (in), D11 DCLK (in), D12 TCK (in), D13 IRL3 (in), D14 STATUS1 (out), D15 AUDSYNC (out), D19 AUDCLK (out), D20 CLKOSC (out), E1 LDATA34 (io), E2 LDATA35 (io), E3 LADDR6 (out), E4 LADDR7 (out), E5 LADDR8 (out), E6 TDI (in), E7 ~{TRST} (in), E8 TDO (out), E9 ~{ASEBRK} (io), E12 LPCLKIN (in), E13 LPCLKOSC (out), E14 ~{RST} (in), E15 TMUCLK/TMUCLKIN (io), E19 AUXCLKOUT (out), E20 CLKIN (in), F1 LDATA32 (io), F2 LDATA33 (io), F3 LADDR3 (out), F4 LADDR4 (out), F5 LADDR5 (out), G1 LDATA46 (io), G2 LDATA47 (io), G3 LADDR0 (out), G4 LADDR1 (out), G5 LADDR2 (out), H1 LDATA44 (io), H2 LDATA45 (io), H3 ~{LCSB}0 (out), H4 ~{LCSB}1 (out), H5 LVREF (in), J1 LDATA42 (io), J2 LDATA43 (io), J3 LBANK0 (out), J4 LBANK1 (out), J5 ~{LWEB} (out), K1 LDATA40 (io), K2 LDATA41 (io), K3 LCLKEN1 (out), K4 ~{LRASB} (out), L1 LDQM5 (out), L2 LDQS5 (out), L3 LCLKOUTB (out), L4 ~{LCASB} (out), M1 LDQS6 (out), M2 LDQM6 (out), M3 ~{LCLKOUTB} (out), N1 LDATA54 (io), N2 LDATA55 (io), P1 LDATA52 (io), P2 LDATA53 (io), R1 LDATA50 (io), R2 LDATA51 (io), T1 LDATA48 (io), T2 LDATA49 (io), U1 LDATA62 (io), U2 LDATA63 (io), V1 LDATA60 (io), V2 LDATA61 (io), W1 LDATA58 (io), W2 LDATA59 (io), W3 LDQS7 (out), Y1 LDATA56 (io), Y2 LDATA57 (io), Y3 LDQM7 (out)
part B pins: D16 ~{PGNT}3/PIO23/EMPIDRAK1 (io), D17 ~{PGNT}1/PIO19 (io), D18 ~{PGNT}0/PIO17 (io), E16 ~{PGNT}2/PIO21 (io), E17 ~{PREQ}1/PIO18 (io), E18 ~{PREQ}0/PIO16 (io), F16 ~{PREQ}2/PIO20 (io), F17 PAD30 (io), F18 PAD31 (io), F19 PCLK (in), F20 PCLKOUT/PIO14 (io), G16 ~{PREQ}3/PIO22/EMPIDREQ1 (io), G17 PAD28 (io), G18 PAD29 (io), G19 PAD26 (io), G20 PAD27 (io), H16 ~{PCBE}3 (io), H17 PAD24 (io), H18 PAD25 (io), H19 PAD22 (io), H20 PAD23 (io), J16 PIDSEL (io), J17 PAD20 (io), J18 PAD21 (io), J19 PAD18 (io), J20 PAD19 (io), K16 ~{PCBE}2 (io), K17 PAD16 (io), K18 PAD17 (io), K19 ~{PFRAME} (io), K20 ~{PIRDY} (io), L5 ~{ESCS}0/MBXINT (out), L17 ~{PTRDY} (io), L18 ~{PDEVSEL} (io), L19 ~{PSTOP} (io), L20 ~{PLOCK} (in), M4 ~{ESCS}2/EMPIDRAK0 (in), M5 ~{ESCS}1/EMPIDREQ0 (out), M16 PPAR (io), M17 ~{PERR} (io), M18 ~{PSERR} (io), M19 PAD14 (io), M20 PAD15 (io), N3 EPENDING (out), N4 EDQM0 (io), N5 ~{FBAA} (out), N16 ~{PCBE}1 (io), N17 PAD12 (io), N18 PAD13 (io), N19 PAD10 (io), N20 PAD11 (io), P3 ~{MACK} (io), P4 EDQM1 (io), P5 EDQM2 (io), P16 ~{PCBE}0 (io), P17 PAD8 (io), P18 PAD9 (io), P19 PAD6 (io), P20 PAD7 (io), R3 ~{MREQ} (io), R4 ~{ECS}0/~{EMPICS} (io), R5 EDQM3 (io), R16 ~{PRST} (io), R17 PAD4 (io), R18 PAD5 (io), R19 PAD2 (io), R20 PAD3 (io), T3 ~{ECAS}/MFRAME&EOE_N (io), T4 ~{ECS}1/~{EMPICS} (io), T5 ~{ECS}2~{/EMPICS} (io), T6 EADDR7/MODE5 (io), T7 EADDR9/MODE7 (io), T8 EADDR11/MODE9 (io), T9 EADDR13/MODE11 (io), T10 EWAIT (io), T12 ~{ECS}3/~{EMPICS} (io), T13 ~{ECS}4/~{EMPICS} (io), T14 ~{ECS}5~{/EMPICS} (io), T15 EADDR22 (out), T16 EADDR25/EMPIDACK1 (io), T17 PAD0 (io), T18 PAD1 (io), T19 ~{PINTA}/PIO15 (io), T20 DRAK1/PIO12/EMPIDRAK3 (io), U3 ~{ERAS}/MSTART&FLBADDR (io), U4 EADDR3/MODE1 (io), U5 EADDR5/MODE3 (io), U6 EADDR6/MODE4 (io), U7 EADDR8/MODE6 (io), U8 EADDR10/MODE8 (io), U9 EADDR12/MODE10 (io), U10 ECLKEN (out), U11 EADDR15/MODE13 (io), U12 EADDR17/MODE15 (io), U13 EADDR18/MODE16 (io), U14 EADDR19/MODE17 (io), U15 EADDR21/MODE19 (io), U16 EADDR24 (out), U17 DREQ1/PIO11/EMPIDREQ3 (io), U18 DRAK0/PIO9/EMPIDRAK2 (io), U19 DACK0/PIO10/EMPIDACK2 (io), U20 DACK1/PIO13/EMPIDACK3 (io), V3 ~{EWE} (io), V4 EADDR2/MODE0 (io), V5 EADDR4/MODE2 (io), V6 EDATA4 (io), V7 EDATA7 (io), V8 EDATA10 (io), V9 EDATA13 (io), V10 FCLKOUT (out), V11 EADDR14/MODE12 (io), V12 EADDR16/MODE14 (io), V13 EDATA20 (io), V14 EDATA23 (io), V15 EADDR20/MODE18 (io), V16 EADDR23 (out), V17 EADDR26/EMPIDACK0 (io), V18 CTS1/PIO6 (io), V19 SCI2/PIO7 (io), V20 DREQ0/PIO8/EMPIDREQ2 (io), W4 EDATA0 (io), W5 EDATA2 (io), W6 EDATA5 (io), W7 EDATA8 (io), W8 EDATA11 (io), W9 EDATA15 (io), W10 ECLKOUT (out), W11 EDATA16 (io), W12 EDATA18 (io), W13 EDATA21 (io), W14 EDATA24 (io), W15 EDATA26 (io), W16 EDATA28 (io), W17 EDATA30 (io), W18 SCK1/PIO3 (io), W19 TXD1/PIO5 (io), W20 RXD1/PIO4 (io), Y4 EDATA1 (io), Y5 EDATA3 (io), Y6 EDATA6 (io), Y7 EDATA9 (io), Y8 EDATA12 (io), Y9 EDATA14 (io), Y10 MCLKOUT (out), Y11 EDATA17 (io), Y12 EDATA19 (io), Y13 EDATA22 (io), Y14 EDATA25 (io), Y15 EDATA27 (io), Y16 EDATA29 (io), Y17 EDATA31 (io), Y18 SCK0/PIO0 (io), Y19 RXD0/PIO1 (io), Y20 TXD0/PIO2 (io)
part C pins: E10 VDDIO (power), E11 VDDRTC (in), F6 VDDLMI (power), F7 VDDIO (power), F8 VDDLMI (power), F9 VDDIO (power), F10 VDDLMI (power), F11 VDDIO (power), F12 VDDIO (power), F13 VDDIO (power), F14 VDDLMI (power), F15 VDDLMI (power), G6 VDDLMI (power), G15 VDDIO (power), H6 VDDIO (power), H8 GND (power), H9 GND (power), H10 GND (power), H11 GND (power), H12 GND (power), H13 GND (power), H15 VDDIO (power), J6 VDDLMI (power), J8 GND (power), J9 GND (power), J10 GND (power), J11 GND (power), J12 GND (power), J13 GND (power), J15 VDDIO (power), K5 VDDLMI (power), K6 VDDIO (power), K8 GND (power), K9 GND (power), K10 GND (power), K11 GND (power), K12 GND (power), K13 GND (power), K15 VDDIO (power), L6 VDDLMI (power), L8 GND (power), L9 GND (power), L10 GND (power), L11 GND (power), L12 GND (power), L13 GND (power), L15 VDDIO (power), L16 VDDIO (power), M6 VDDCORE (power), M8 GND (power), M9 GND (power), M10 GND (power), M11 GND (power), M12 GND (power), M13 GND (power), M15 VDDCORE (power), N6 VDDCORE (power), N8 GND (power), N9 GND (power), N10 GND (power), N11 GND (power), N12 GND (power), N13 GND (power), N15 VDDCORE (power), P6 VDDCORE (power), P15 VDDCORE (power), R6 VDDCORE (power), R7 VDDCORE (power), R8 VDDCORE (power), R9 VDDCORE (power), R10 VDDCORE (power), R11 VDDCORE (power), R12 VDDCORE (power), R13 VDDCORE (power), R14 VDDCORE (power), R15 VDDCORE (power), T11 VDDCORE (power)

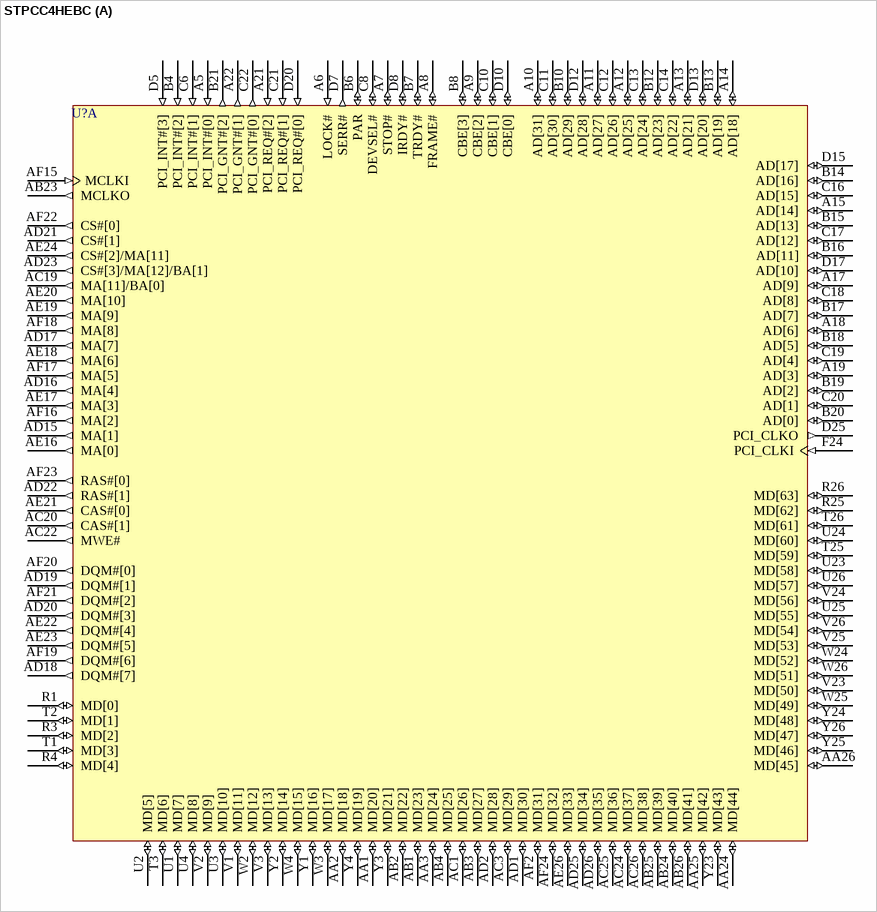
[diagram p8: symbol STPCC4HEBC]

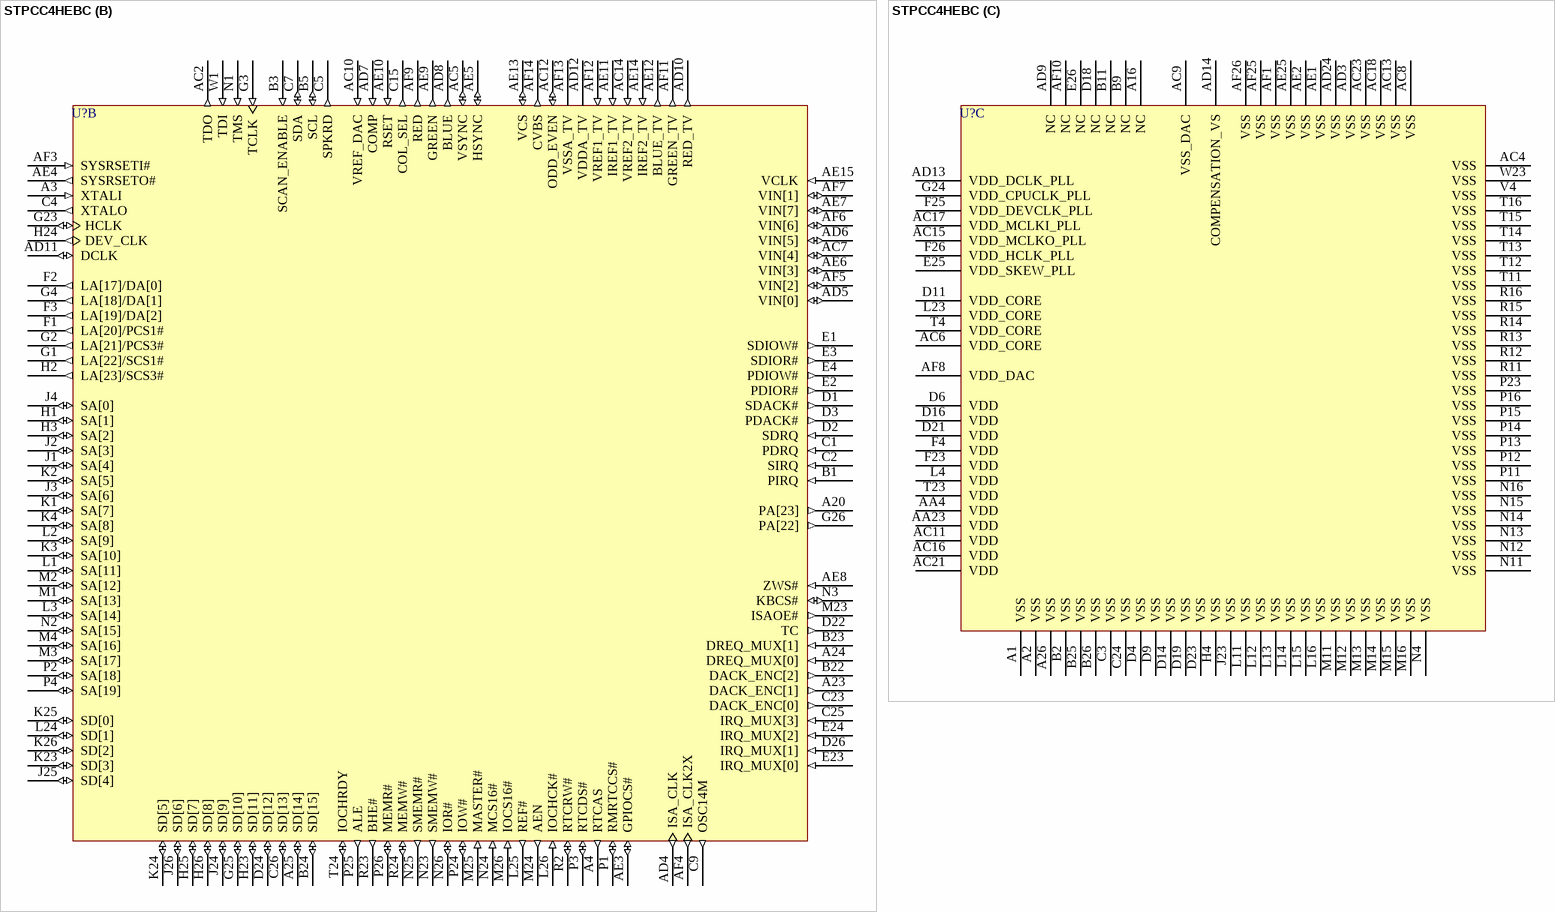
[diagram p9: symbol STPCC4HEBC]

## STPCC4HEBC
designator U?
X86 Core PC Compatible Information Appliance System-on-Chip, 133 MHz Core Speed, 388-Pin PBGA, Commercial; Note: The VDD_xxx_PLL pins and the VDD_CORE pins must be connected to the 2.5V power supply.; Note: They must not be connected to the 3.3 V supply.; Published: 26-May-2004; LatestRevisionDate: 6-Jun-2005; LatestRevisionNote: Stylized 3D Model Added.; DatasheetDocument: Release 1.5, 29-Jan-2002; PackageDocument: Oct-2000; PackageReference: PBGA388; Publisher: Altium Limited; ComponentLink1Description: Manufacturer Link; ComponentLink1URL: http://www.st.com/; ComponentLink2Description: Datasheet; ComponentLink2URL: http://www.st.com/stonline/products/literature/ds/7340/consumer-ii.pdf
footprint PBGA388 (BGA, Plastic; 388 Balls; Body 35 x 35 mm; Pitch 1.27 mm)
3D model STPCC4-PBGA388 (BGA, Plastic; 388 Balls; Body 35 x 35 mm; Pitch 1.27 mm)
part A pins: A5 PCI_INT#[0] (in), A6 LOCK# (in), A7 STOP# (io), A8 FRAME# (io), A9 CBE[2] (io), A10 AD[31] (io), A11 AD[27] (io), A12 AD[25] (io), A13 AD[21] (io), A14 AD[18] (io), A15 AD[14] (io), A17 AD[9] (io), A18 AD[6] (io), A19 AD[3] (io), A21 PCI_REQ#[2] (in), A22 PCI_GNT#[1] (out), AA1 MD[20] (io), AA2 MD[18] (io), AA3 MD[24] (io), AA24 MD[44] (io), AA25 MD[42] (io), AA26 MD[45] (io), AB1 MD[23] (io), AB2 MD[22] (io), AB3 MD[27] (io), AB4 MD[25] (io), AB23 MCLKO (out), AB24 MD[40] (io), AB25 MD[39] (io), AB26 MD[41] (io), AC1 MD[26] (io), AC3 MD[29] (io), AC19 MA[11]/BA[0] (out), AC20 CAS#[1] (out), AC22 MWE# (out), AC24 MD[37] (io), AC25 MD[36] (io), AC26 MD[38] (io), AD1 MD[30] (io), AD2 MD[28] (io), AD15 MA[1] (out), AD16 MA[4] (out), AD17 MA[7] (out), AD18 DQM#[7] (out), AD19 DQM#[1] (out), AD20 DQM#[3] (out), AD21 CS#[1] (out), AD22 RAS#[1] (out), AD23 CS#[3]/MA[12]/BA[1] (out), AD25 MD[34] (io), AD26 MD[35] (io), AE16 MA[0] (out), AE17 MA[3] (out), AE18 MA[6] (out), AE19 MA[9] (out), AE20 MA[10] (out), AE21 CAS#[0] (out), AE22 DQM#[4] (out), AE23 DQM#[5] (out), AE24 CS#[2]/MA[11] (out), AE26 MD[33] (io), AF2 MD[31] (io), AF15 MCLKI (in), AF16 MA[2] (out), AF17 MA[5] (out), AF18 MA[8] (out), AF19 DQM#[6] (out), AF20 DQM#[0] (out), AF21 DQM#[2] (out), AF22 CS#[0] (out), AF23 RAS#[0] (out), AF24 MD[32] (io), B4 PCI_INT#[2] (in), B6 PAR (io), B7 TRDY# (io), B8 CBE[3] (io), B10 AD[29] (io), B12 AD[23] (io), B13 AD[19] (io), B14 AD[16] (io), B15 AD[13] (io), B16 AD[11] (io), B17 AD[7] (io), B18 AD[5] (io), B19 AD[2] (io), B20 AD[0] (io), B21 PCI_GNT#[2] (out), C6 PCI_INT#[1] (in), C8 DEVSEL# (io), C10 CBE[1] (io), C11 AD[30] (io), C12 AD[26] (io), C13 AD[24] (io), C14 AD[22] (io), C16 AD[15] (io), C17 AD[12] (io), C18 AD[8] (io), C19 AD[4] (io), C20 AD[1] (io), C21 PCI_REQ#[1] (in), C22 PCI_GNT#[0] (out), D5 PCI_INT#[3] (in), D7 SERR# (out), D8 IRDY# (io), D10 CBE[0] (io), D12 AD[28] (io), D13 AD[20] (io), D15 AD[17] (io), D17 AD[10] (io), D20 PCI_REQ#[0] (in), D25 PCI_CLKO (out), F24 PCI_CLKI (in), R1 MD[0] (io), R3 MD[2] (io), R4 MD[4] (io), R25 MD[62] (io), R26 MD[63] (io), T1 MD[3] (io), T2 MD[1] (io), T3 MD[6] (io), T25 MD[59] (io), T26 MD[61] (io), U1 MD[7] (io), U2 MD[5] (io), U3 MD[10] (io), U4 MD[8] (io), U23 MD[58] (io), U24 MD[60] (io), U25 MD[55] (io), U26 MD[57] (io), V1 MD[11] (io), V2 MD[9] (io), V3 MD[13] (io), V23 MD[50] (io), V24 MD[56] (io), V25 MD[53] (io), V26 MD[54] (io), W2 MD[12] (io), W3 MD[17] (io), W4 MD[15] (io), W24 MD[52] (io), W25 MD[49] (io), W26 MD[51] (io), Y1 MD[16] (io), Y2 MD[14] (io), Y3 MD[21] (io), Y4 MD[19] (io), Y23 MD[43] (io), Y24 MD[48] (io), Y25 MD[46] (io), Y26 MD[47] (io)
part B pins: A3 XTALI (in), A4 RTCAS (out), A20 PA[23] (out), A23 DACK_ENC[1] (out), A24 DREQ_MUX[0] (in), A25 SD[14] (io), AC2 TDO (out), AC5 VSYNC (io), AC7 VIN[4] (io), AC10 VREF_DAC (in), AC12 ODD_EVEN (io), AC14 VREF2_TV (in), AD4 ISA_CLK (out), AD5 VIN[0] (io), AD6 VIN[5] (io), AD7 COMP (in), AD8 BLUE (out), AD10 RED_TV (out), AD11 DCLK (io), AD12 VDDA_TV (power), AE3 GPIOCS# (io), AE4 SYSRSETO# (out), AE5 HSYNC (io), AE6 VIN[3] (io), AE7 VIN[7] (io), AE8 ZWS# (in), AE9 GREEN (out), AE10 RSET (in), AE11 IREF1_TV (in), AE12 BLUE_TV (out), AE13 VCS (io), AE14 IREF2_TV (in), AE15 VCLK (in), AF3 SYSRSETI# (in), AF4 ISA_CLK2X (out), AF5 VIN[2] (io), AF6 VIN[6] (io), AF7 VIN[1] (io), AF9 RED (out), AF11 GREEN_TV (out), AF12 VREF1_TV (in), AF13 VSSA_TV (power), AF14 CVBS (out), B1 PIRQ (in), B3 SCAN_ENABLE (in), B5 SCL (io), B22 DACK_ENC[2] (out), B23 DREQ_MUX[1] (in), B24 SD[15] (io), C1 PDRQ (in), C2 SIRQ (in), C4 XTALO (out), C5 SPKRD (out), C7 SDA (io), C9 OSC14M (out), C15 COL_SEL (out), C23 DACK_ENC[0] (out), C25 IRQ_MUX[3] (in), C26 SD[13] (io), D1 SDACK# (out), D2 SDRQ (in), D3 PDACK# (out), D22 TC (out), D24 SD[12] (io), D26 IRQ_MUX[1] (in), E1 SDIOW# (out), E2 PDIOR# (out), E3 SDIOR# (out), E4 PDIOW# (out), E23 IRQ_MUX[0] (in), E24 IRQ_MUX[2] (in), F1 LA[20]/PCS1# (out), F2 LA[17]/DA[0] (out), F3 LA[19]/DA[2] (out), G1 LA[22]/SCS1# (out), G2 LA[21]/PCS3# (out), G3 TCLK (in), G4 LA[18]/DA[1] (out), G23 HCLK (io), G25 SD[10] (io), G26 PA[22] (out), H1 SA[1] (io), H2 LA[23]/SCS3# (out), H3 SA[2] (io), H23 SD[11] (io), H24 DEV_CLK (out), H25 SD[7] (io), H26 SD[8] (io), J1 SA[4] (io), J2 SA[3] (io), J3 SA[6] (io), J4 SA[0] (io), J24 SD[9] (io), J25 SD[4] (io), J26 SD[6] (io), K1 SA[7] (io), K2 SA[5] (io), K3 SA[10] (io), K4 SA[8] (io), K23 SD[3] (io), K24 SD[5] (io), K25 SD[0] (io), K26 SD[2] (io), L1 SA[11] (io), L2 SA[9] (io), L3 SA[14] (io), L24 SD[1] (io), L25 REF# (out), L26 IOCHCK# (in), M1 SA[13] (io), M2 SA[12] (io), M3 SA[17] (io), M4 SA[16] (io), M23 ISAOE# (out), M24 AEN (out), M25 MASTER# (in), M26 IOCS16# (in), N1 TMS (in), N2 SA[15] (io), N3 KBCS# (io), N23 SMEMW# (out), N24 MCS16# (in), N25 SMEMR# (out), N26 IOR# (io), P1 RMRTCCS# (io), P2 SA[18] (io), P3 RTCDS# (io), P4 SA[19] (io), P24 IOW# (io), P25 ALE (out), P26 MEMR# (io), R2 RTCRW# (io), R23 BHE# (out), R24 MEMW# (io), T24 IOCHRDY (io), W1 TDI (in)
part C pins: A1 VSS (power), A2 VSS (power), A16 NC, A26 VSS (power), AA4 VDD (power), AA23 VDD (power), AC4 VSS (power), AC6 VDD_CORE (power), AC8 VSS (power), AC9 VSS_DAC (power), AC11 VDD (power), AC13 VSS (power), AC15 VDD_MCLKO_PLL (power), AC16 VDD (power), AC17 VDD_MCLKI_PLL (power), AC18 VSS (power), AC21 VDD (power), AC23 VSS (power), AD3 VSS (power), AD9 NC, AD13 VDD_DCLK_PLL (power), AD14 COMPENSATION_VS (power), AD24 VSS (power), AE1 VSS (power), AE2 VSS (power), AE25 VSS (power), AF1 VSS (power), AF8 VDD_DAC (power), AF10 NC, AF25 VSS (power), AF26 VSS (power), B2 VSS (power), B9 NC, B11 NC, B25 VSS (power), B26 VSS (power), C3 VSS (power), C24 VSS (power), D4 VSS (power), D6 VDD (power), D9 VSS (power), D11 VDD_CORE (power), D14 VSS (power), D16 VDD (power), D18 NC, D19 VSS (power), D21 VDD (power), D23 VSS (power), E25 VDD_SKEW_PLL (power), E26 NC, F4 VDD (power), F23 VDD (power), F25 VDD_DEVCLK_PLL (power), F26 VDD_HCLK_PLL (power), G24 VDD_CPUCLK_PLL (power), H4 VSS (power), J23 VSS (power), L4 VDD (power), L11 VSS (power), L12 VSS (power), L13 VSS (power), L14 VSS (power), L15 VSS (power), L16 VSS (power), L23 VDD_CORE (power), M11 VSS (power), M12 VSS (power), M13 VSS (power), M14 VSS (power), M15 VSS (power), M16 VSS (power), N4 VSS (power), N11 VSS (power), N12 VSS (power), N13 VSS (power), N14 VSS (power), N15 VSS (power), N16 VSS (power), P11 VSS (power), P12 VSS (power), P13 VSS (power), P14 VSS (power), P15 VSS (power), P16 VSS (power), P23 VSS (power), R11 VSS (power), R12 VSS (power), R13 VSS (power), R14 VSS (power), R15 VSS (power), R16 VSS (power), T4 VDD_CORE (power), T11 VSS (power), T12 VSS (power), T13 VSS (power), T14 VSS (power), T15 VSS (power), T16 VSS (power), T23 VDD (power), V4 VSS (power), W23 VSS (power)

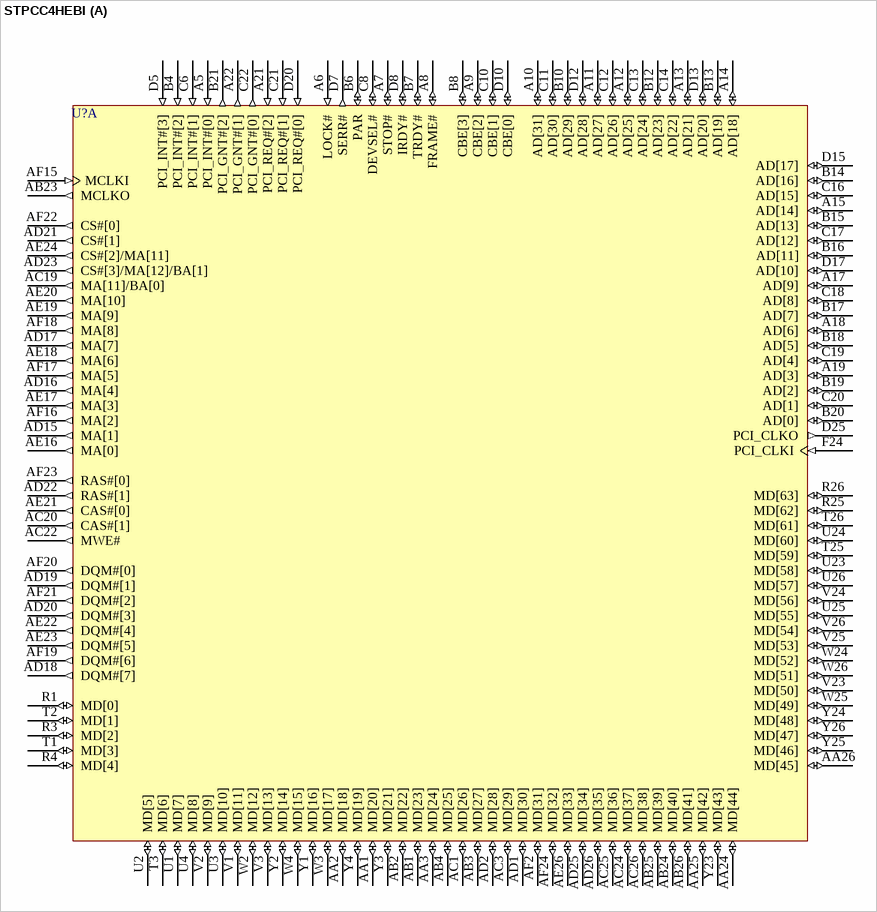
[diagram p10: symbol STPCC4HEBI]

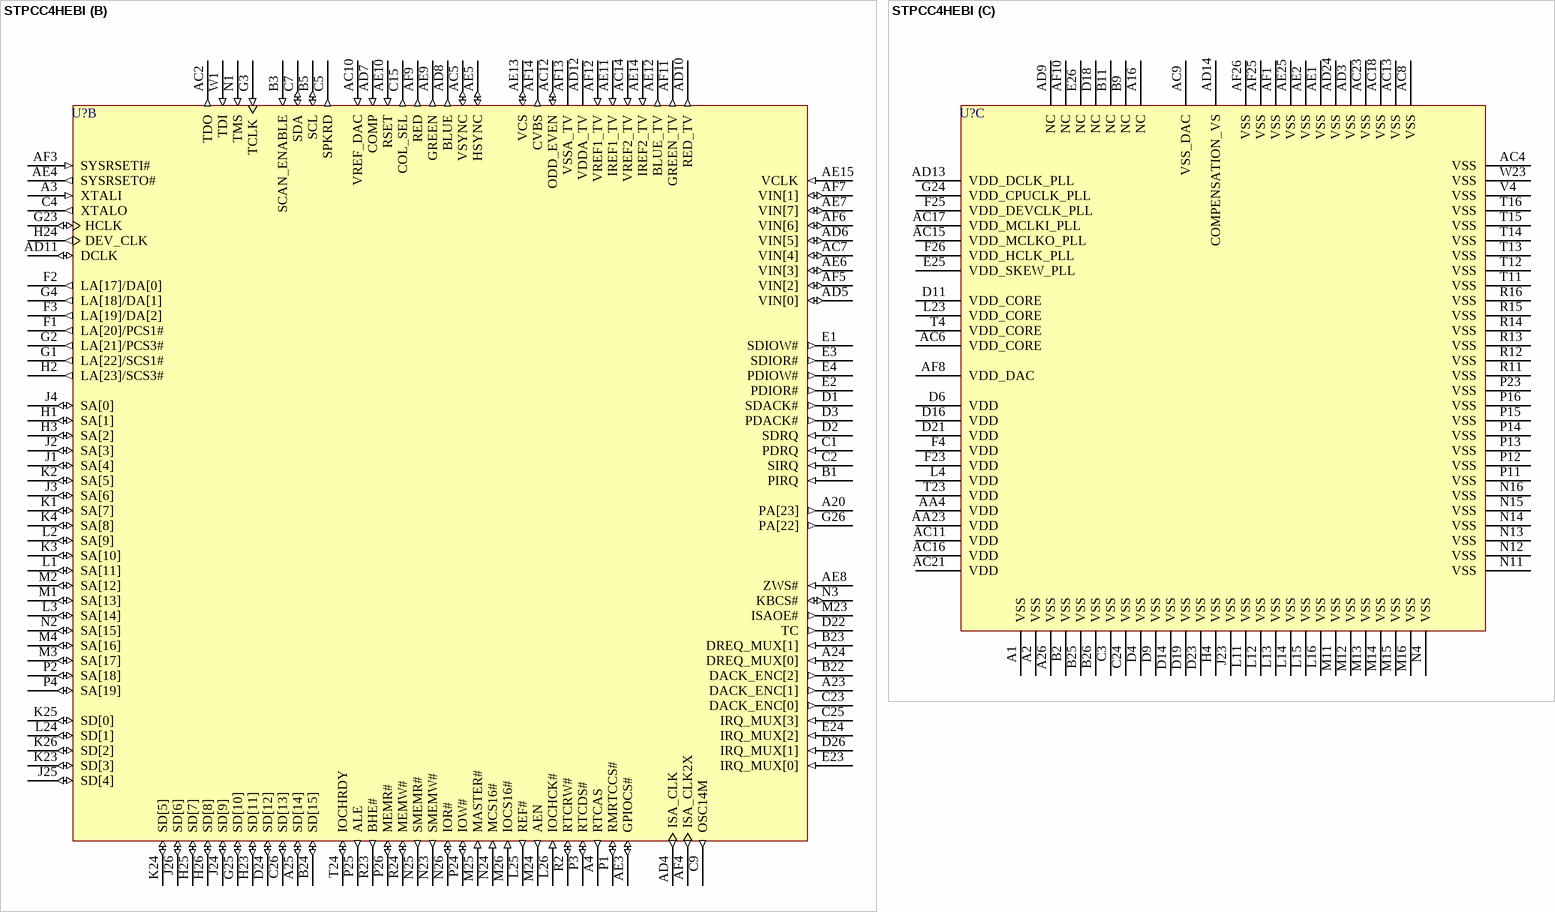
[diagram p11: symbol STPCC4HEBI]

## STPCC4HEBI
designator U?
X86 Core PC Compatible Information Appliance System-on-Chip, 133 MHz Core Speed, 388-Pin PBGA, Industrial; Note: The VDD_xxx_PLL pins and the VDD_CORE pins must be connected to the 2.5V power supply.; Note: They must not be connected to the 3.3 V supply.; Published: 26-May-2004; LatestRevisionDate: 6-Jun-2005; LatestRevisionNote: Stylized 3D Model Added.; DatasheetDocument: Release 1.5, 29-Jan-2002; PackageDocument: Oct-2000; PackageReference: PBGA388; Publisher: Altium Limited; ComponentLink1Description: Manufacturer Link; ComponentLink1URL: http://www.st.com/; ComponentLink2Description: Datasheet; ComponentLink2URL: http://www.st.com/stonline/products/literature/ds/7340/consumer-ii.pdf
footprint PBGA388 (BGA, Plastic; 388 Balls; Body 35 x 35 mm; Pitch 1.27 mm)
3D model STPCC4-PBGA388 (BGA, Plastic; 388 Balls; Body 35 x 35 mm; Pitch 1.27 mm)
part A pins: A5 PCI_INT#[0] (in), A6 LOCK# (in), A7 STOP# (io), A8 FRAME# (io), A9 CBE[2] (io), A10 AD[31] (io), A11 AD[27] (io), A12 AD[25] (io), A13 AD[21] (io), A14 AD[18] (io), A15 AD[14] (io), A17 AD[9] (io), A18 AD[6] (io), A19 AD[3] (io), A21 PCI_REQ#[2] (in), A22 PCI_GNT#[1] (out), AA1 MD[20] (io), AA2 MD[18] (io), AA3 MD[24] (io), AA24 MD[44] (io), AA25 MD[42] (io), AA26 MD[45] (io), AB1 MD[23] (io), AB2 MD[22] (io), AB3 MD[27] (io), AB4 MD[25] (io), AB23 MCLKO (out), AB24 MD[40] (io), AB25 MD[39] (io), AB26 MD[41] (io), AC1 MD[26] (io), AC3 MD[29] (io), AC19 MA[11]/BA[0] (out), AC20 CAS#[1] (out), AC22 MWE# (out), AC24 MD[37] (io), AC25 MD[36] (io), AC26 MD[38] (io), AD1 MD[30] (io), AD2 MD[28] (io), AD15 MA[1] (out), AD16 MA[4] (out), AD17 MA[7] (out), AD18 DQM#[7] (out), AD19 DQM#[1] (out), AD20 DQM#[3] (out), AD21 CS#[1] (out), AD22 RAS#[1] (out), AD23 CS#[3]/MA[12]/BA[1] (out), AD25 MD[34] (io), AD26 MD[35] (io), AE16 MA[0] (out), AE17 MA[3] (out), AE18 MA[6] (out), AE19 MA[9] (out), AE20 MA[10] (out), AE21 CAS#[0] (out), AE22 DQM#[4] (out), AE23 DQM#[5] (out), AE24 CS#[2]/MA[11] (out), AE26 MD[33] (io), AF2 MD[31] (io), AF15 MCLKI (in), AF16 MA[2] (out), AF17 MA[5] (out), AF18 MA[8] (out), AF19 DQM#[6] (out), AF20 DQM#[0] (out), AF21 DQM#[2] (out), AF22 CS#[0] (out), AF23 RAS#[0] (out), AF24 MD[32] (io), B4 PCI_INT#[2] (in), B6 PAR (io), B7 TRDY# (io), B8 CBE[3] (io), B10 AD[29] (io), B12 AD[23] (io), B13 AD[19] (io), B14 AD[16] (io), B15 AD[13] (io), B16 AD[11] (io), B17 AD[7] (io), B18 AD[5] (io), B19 AD[2] (io), B20 AD[0] (io), B21 PCI_GNT#[2] (out), C6 PCI_INT#[1] (in), C8 DEVSEL# (io), C10 CBE[1] (io), C11 AD[30] (io), C12 AD[26] (io), C13 AD[24] (io), C14 AD[22] (io), C16 AD[15] (io), C17 AD[12] (io), C18 AD[8] (io), C19 AD[4] (io), C20 AD[1] (io), C21 PCI_REQ#[1] (in), C22 PCI_GNT#[0] (out), D5 PCI_INT#[3] (in), D7 SERR# (out), D8 IRDY# (io), D10 CBE[0] (io), D12 AD[28] (io), D13 AD[20] (io), D15 AD[17] (io), D17 AD[10] (io), D20 PCI_REQ#[0] (in), D25 PCI_CLKO (out), F24 PCI_CLKI (in), R1 MD[0] (io), R3 MD[2] (io), R4 MD[4] (io), R25 MD[62] (io), R26 MD[63] (io), T1 MD[3] (io), T2 MD[1] (io), T3 MD[6] (io), T25 MD[59] (io), T26 MD[61] (io), U1 MD[7] (io), U2 MD[5] (io), U3 MD[10] (io), U4 MD[8] (io), U23 MD[58] (io), U24 MD[60] (io), U25 MD[55] (io), U26 MD[57] (io), V1 MD[11] (io), V2 MD[9] (io), V3 MD[13] (io), V23 MD[50] (io), V24 MD[56] (io), V25 MD[53] (io), V26 MD[54] (io), W2 MD[12] (io), W3 MD[17] (io), W4 MD[15] (io), W24 MD[52] (io), W25 MD[49] (io), W26 MD[51] (io), Y1 MD[16] (io), Y2 MD[14] (io), Y3 MD[21] (io), Y4 MD[19] (io), Y23 MD[43] (io), Y24 MD[48] (io), Y25 MD[46] (io), Y26 MD[47] (io)
part B pins: A3 XTALI (in), A4 RTCAS (out), A20 PA[23] (out), A23 DACK_ENC[1] (out), A24 DREQ_MUX[0] (in), A25 SD[14] (io), AC2 TDO (out), AC5 VSYNC (io), AC7 VIN[4] (io), AC10 VREF_DAC (in), AC12 ODD_EVEN (io), AC14 VREF2_TV (in), AD4 ISA_CLK (out), AD5 VIN[0] (io), AD6 VIN[5] (io), AD7 COMP (in), AD8 BLUE (out), AD10 RED_TV (out), AD11 DCLK (io), AD12 VDDA_TV (power), AE3 GPIOCS# (io), AE4 SYSRSETO# (out), AE5 HSYNC (io), AE6 VIN[3] (io), AE7 VIN[7] (io), AE8 ZWS# (in), AE9 GREEN (out), AE10 RSET (in), AE11 IREF1_TV (in), AE12 BLUE_TV (out), AE13 VCS (io), AE14 IREF2_TV (in), AE15 VCLK (in), AF3 SYSRSETI# (in), AF4 ISA_CLK2X (out), AF5 VIN[2] (io), AF6 VIN[6] (io), AF7 VIN[1] (io), AF9 RED (out), AF11 GREEN_TV (out), AF12 VREF1_TV (in), AF13 VSSA_TV (power), AF14 CVBS (out), B1 PIRQ (in), B3 SCAN_ENABLE (in), B5 SCL (io), B22 DACK_ENC[2] (out), B23 DREQ_MUX[1] (in), B24 SD[15] (io), C1 PDRQ (in), C2 SIRQ (in), C4 XTALO (out), C5 SPKRD (out), C7 SDA (io), C9 OSC14M (out), C15 COL_SEL (out), C23 DACK_ENC[0] (out), C25 IRQ_MUX[3] (in), C26 SD[13] (io), D1 SDACK# (out), D2 SDRQ (in), D3 PDACK# (out), D22 TC (out), D24 SD[12] (io), D26 IRQ_MUX[1] (in), E1 SDIOW# (out), E2 PDIOR# (out), E3 SDIOR# (out), E4 PDIOW# (out), E23 IRQ_MUX[0] (in), E24 IRQ_MUX[2] (in), F1 LA[20]/PCS1# (out), F2 LA[17]/DA[0] (out), F3 LA[19]/DA[2] (out), G1 LA[22]/SCS1# (out), G2 LA[21]/PCS3# (out), G3 TCLK (in), G4 LA[18]/DA[1] (out), G23 HCLK (io), G25 SD[10] (io), G26 PA[22] (out), H1 SA[1] (io), H2 LA[23]/SCS3# (out), H3 SA[2] (io), H23 SD[11] (io), H24 DEV_CLK (out), H25 SD[7] (io), H26 SD[8] (io), J1 SA[4] (io), J2 SA[3] (io), J3 SA[6] (io), J4 SA[0] (io), J24 SD[9] (io), J25 SD[4] (io), J26 SD[6] (io), K1 SA[7] (io), K2 SA[5] (io), K3 SA[10] (io), K4 SA[8] (io), K23 SD[3] (io), K24 SD[5] (io), K25 SD[0] (io), K26 SD[2] (io), L1 SA[11] (io), L2 SA[9] (io), L3 SA[14] (io), L24 SD[1] (io), L25 REF# (out), L26 IOCHCK# (in), M1 SA[13] (io), M2 SA[12] (io), M3 SA[17] (io), M4 SA[16] (io), M23 ISAOE# (out), M24 AEN (out), M25 MASTER# (in), M26 IOCS16# (in), N1 TMS (in), N2 SA[15] (io), N3 KBCS# (io), N23 SMEMW# (out), N24 MCS16# (in), N25 SMEMR# (out), N26 IOR# (io), P1 RMRTCCS# (io), P2 SA[18] (io), P3 RTCDS# (io), P4 SA[19] (io), P24 IOW# (io), P25 ALE (out), P26 MEMR# (io), R2 RTCRW# (io), R23 BHE# (out), R24 MEMW# (io), T24 IOCHRDY (io), W1 TDI (in)
part C pins: A1 VSS (power), A2 VSS (power), A16 NC, A26 VSS (power), AA4 VDD (power), AA23 VDD (power), AC4 VSS (power), AC6 VDD_CORE (power), AC8 VSS (power), AC9 VSS_DAC (power), AC11 VDD (power), AC13 VSS (power), AC15 VDD_MCLKO_PLL (power), AC16 VDD (power), AC17 VDD_MCLKI_PLL (power), AC18 VSS (power), AC21 VDD (power), AC23 VSS (power), AD3 VSS (power), AD9 NC, AD13 VDD_DCLK_PLL (power), AD14 COMPENSATION_VS (power), AD24 VSS (power), AE1 VSS (power), AE2 VSS (power), AE25 VSS (power), AF1 VSS (power), AF8 VDD_DAC (power), AF10 NC, AF25 VSS (power), AF26 VSS (power), B2 VSS (power), B9 NC, B11 NC, B25 VSS (power), B26 VSS (power), C3 VSS (power), C24 VSS (power), D4 VSS (power), D6 VDD (power), D9 VSS (power), D11 VDD_CORE (power), D14 VSS (power), D16 VDD (power), D18 NC, D19 VSS (power), D21 VDD (power), D23 VSS (power), E25 VDD_SKEW_PLL (power), E26 NC, F4 VDD (power), F23 VDD (power), F25 VDD_DEVCLK_PLL (power), F26 VDD_HCLK_PLL (power), G24 VDD_CPUCLK_PLL (power), H4 VSS (power), J23 VSS (power), L4 VDD (power), L11 VSS (power), L12 VSS (power), L13 VSS (power), L14 VSS (power), L15 VSS (power), L16 VSS (power), L23 VDD_CORE (power), M11 VSS (power), M12 VSS (power), M13 VSS (power), M14 VSS (power), M15 VSS (power), M16 VSS (power), N4 VSS (power), N11 VSS (power), N12 VSS (power), N13 VSS (power), N14 VSS (power), N15 VSS (power), N16 VSS (power), P11 VSS (power), P12 VSS (power), P13 VSS (power), P14 VSS (power), P15 VSS (power), P16 VSS (power), P23 VSS (power), R11 VSS (power), R12 VSS (power), R13 VSS (power), R14 VSS (power), R15 VSS (power), R16 VSS (power), T4 VDD_CORE (power), T11 VSS (power), T12 VSS (power), T13 VSS (power), T14 VSS (power), T15 VSS (power), T16 VSS (power), T23 VDD (power), V4 VSS (power), W23 VSS (power)

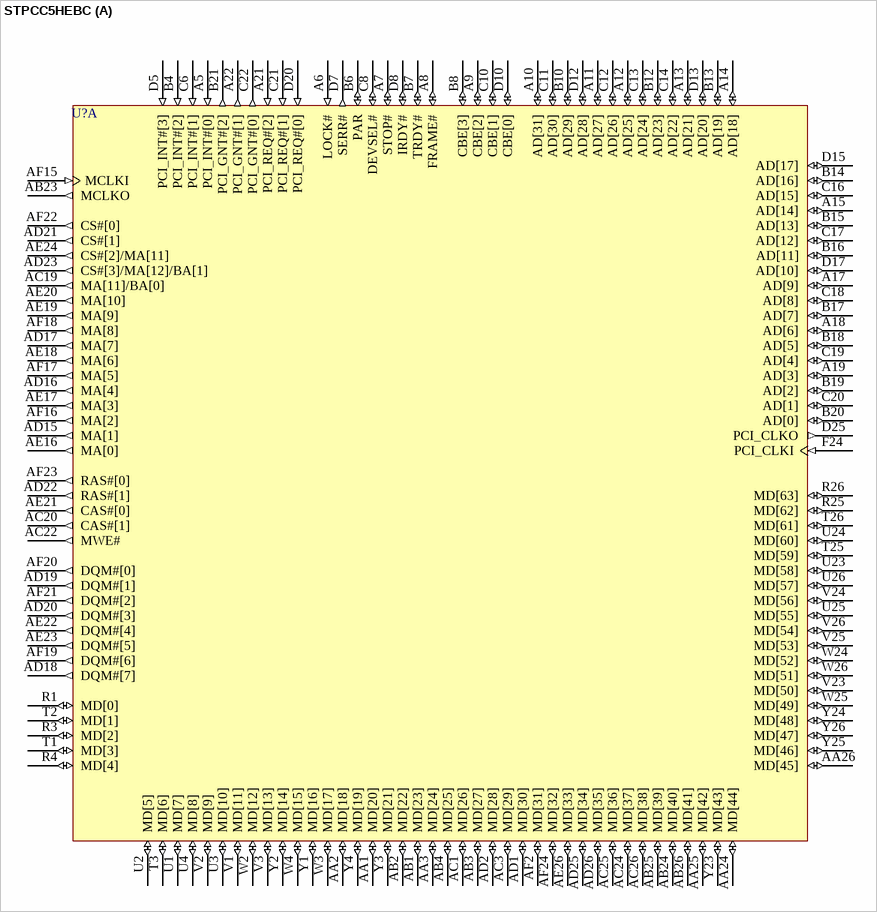
[diagram p12: symbol STPCC5HEBC]

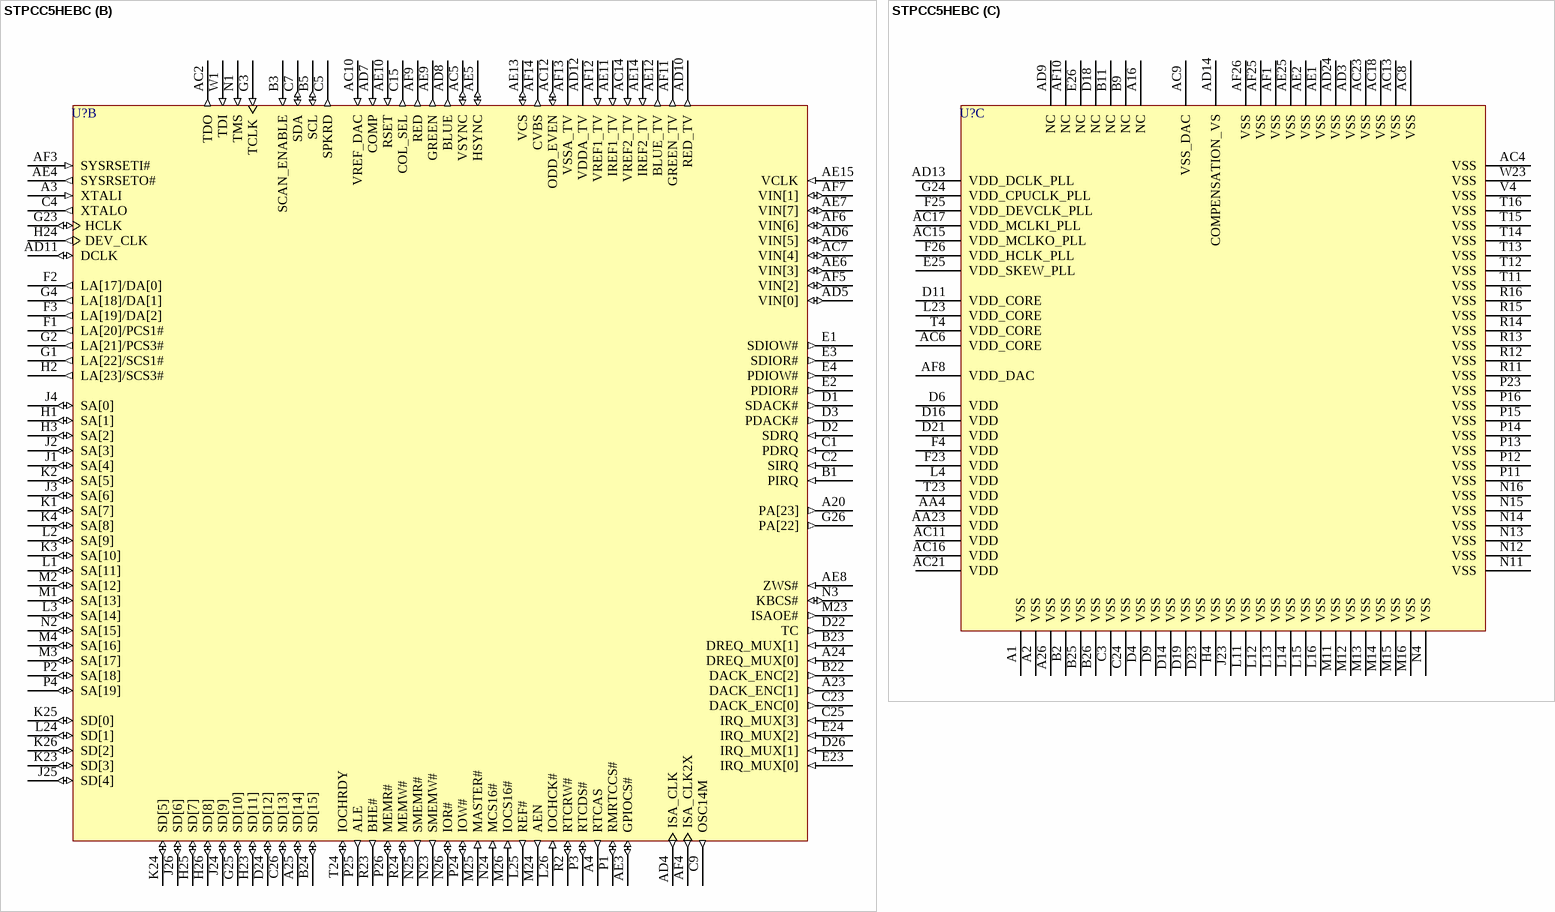
[diagram p13: symbol STPCC5HEBC]